# Altium integrated library NSC Interface.IntLib: 481 symbols (part 9 of 16)
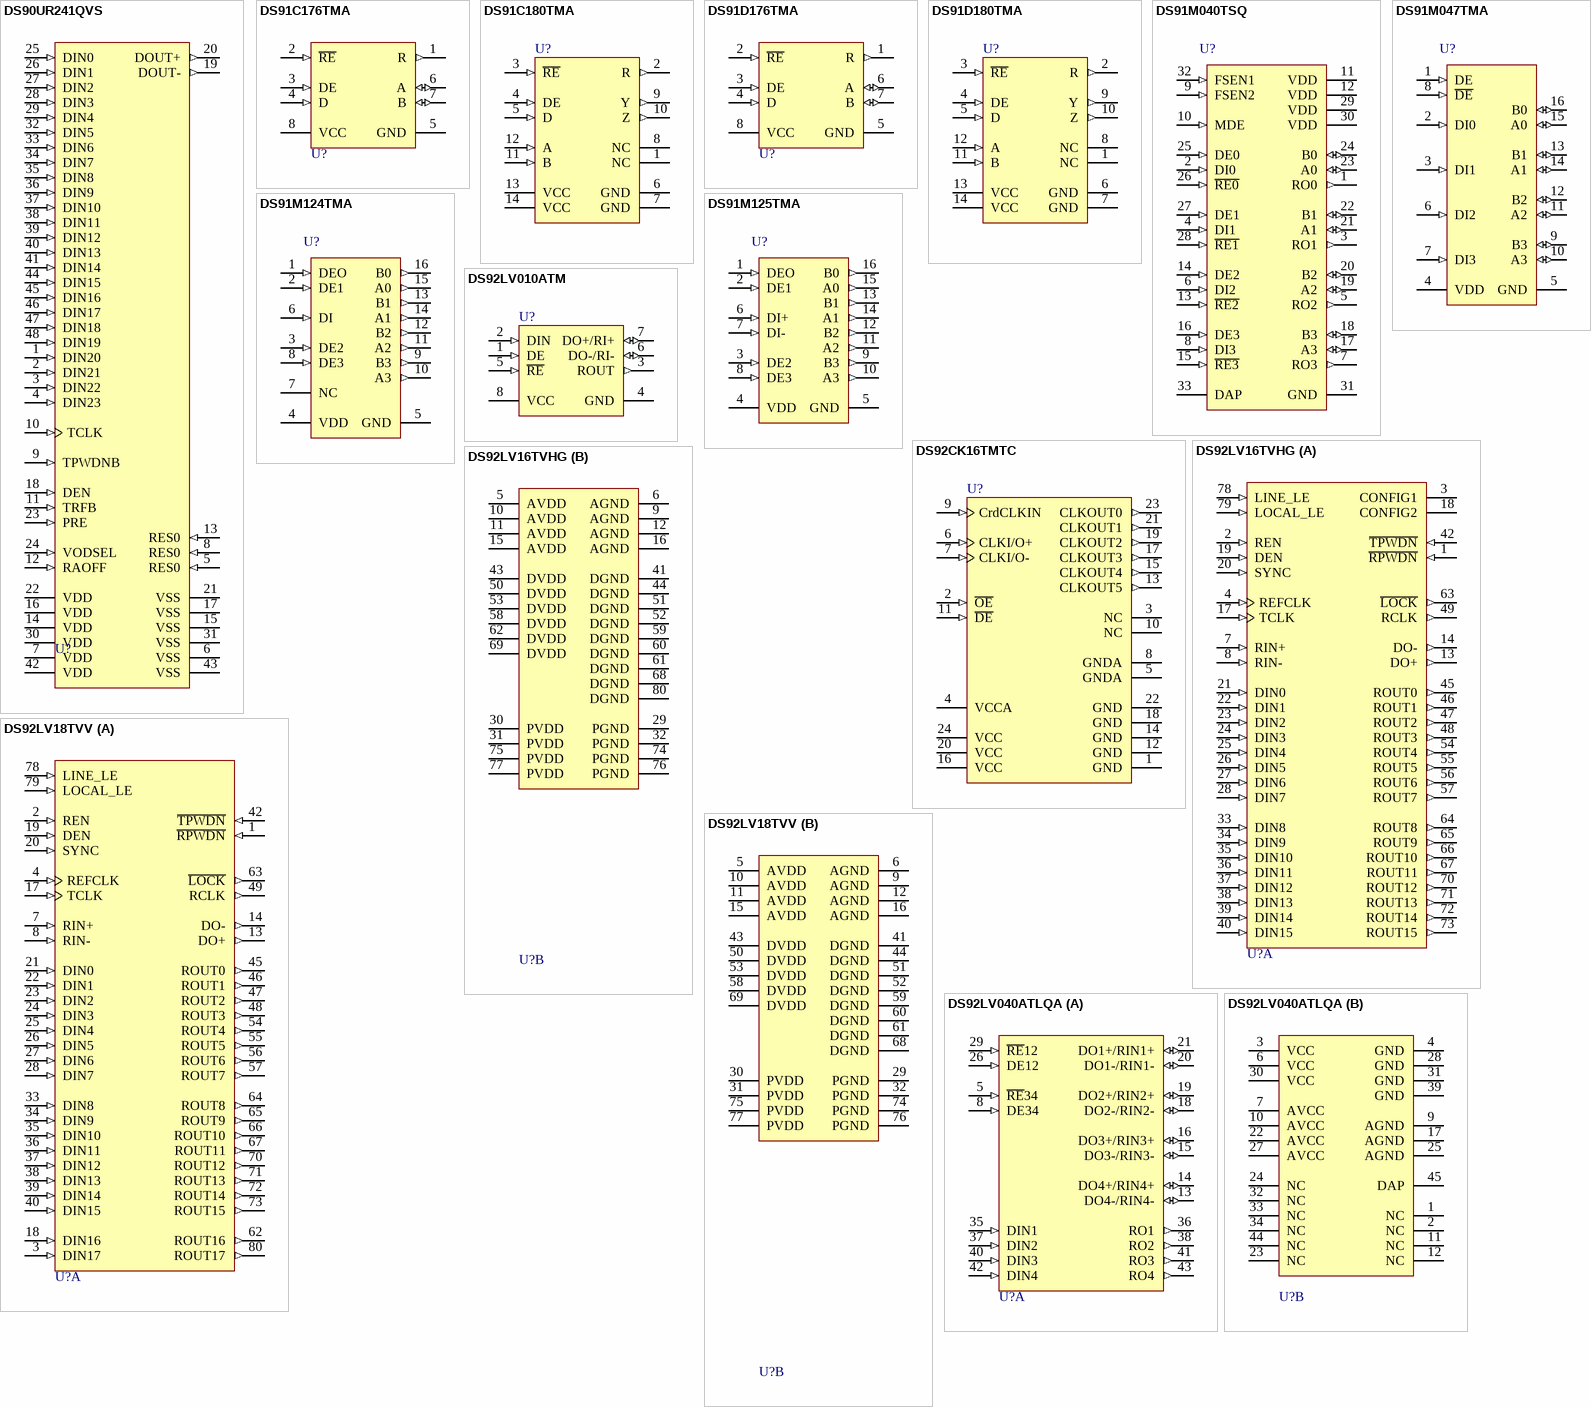
[diagram p48: symbols DS90UR241QVS to DS92LV040ATLQA]

## DS92LV040ATLQA
designator U?
4 Channel Bus LVDS Transceiver; PartNumber: DS92LV040ATLQA; Manufacturer: National Semiconductor; CompType: Interface IC; PackageTopMarking: NS*UZXYTT*LV040A; Published: 4-Dec-2008; DatasheetVersion: Aug-2002; PackageVersion: revB, Oct-2001; PackageReference: LQA44A; Publisher: Altium Limited; PackageDescription: LLP, Plastic, Quad, 7 x 7 x 0.75mm Body, 44 Lead, 0.5mm Pitch; RoHS: O; PinCount: 44; DigiKeyPartNumber: DS92LV040ATLQATR-ND; ComponentLink1Description: DS92LV040A Datasheet; ComponentLink1URL: http://www.national.com/ds/DS/DS92LV040A.pdf; ComponentLink2Description: DS92LV040A Web Page; ComponentLink2URL: http://www.national.com/pf/DS/DS92LV040A.html; ComponentLink3Description: LQA44A Package Page; ComponentLink3URL: http://www.national.com/packaging/folders/lqa44a.html
footprint LQA44A (PQFN, 44-Leads, Body 7x7mm, Pitch 0.5mm, NSC Recommended)
part A pins: 5 ~{RE}34 (in), 8 DE34 (in), 13 DO4-/RIN4- (io), 14 DO4+/RIN4+ (io), 15 DO3-/RIN3- (io), 16 DO3+/RIN3+ (io), 18 DO2-/RIN2- (io), 19 DO2+/RIN2+ (io), 20 DO1-/RIN1- (io), 21 DO1+/RIN1+ (io), 26 DE12 (in), 29 ~{RE}12 (in), 35 DIN1 (in), 36 RO1 (out), 37 DIN2 (in), 38 RO2 (out), 40 DIN3 (in), 41 RO3 (out), 42 DIN4 (in), 43 RO4 (out)
part B pins: 1 NC, 2 NC, 3 VCC (power), 4 GND (power), 6 VCC (power), 7 AVCC (power), 9 AGND (power), 10 AVCC (power), 11 NC, 12 NC, 17 AGND (power), 22 AVCC (power), 23 NC, 24 NC, 25 AGND (power), 27 AVCC (power), 28 GND (power), 30 VCC (power), 31 GND (power), 32 NC, 33 NC, 34 NC, 39 GND (power), 44 NC, 45 DAP (power)

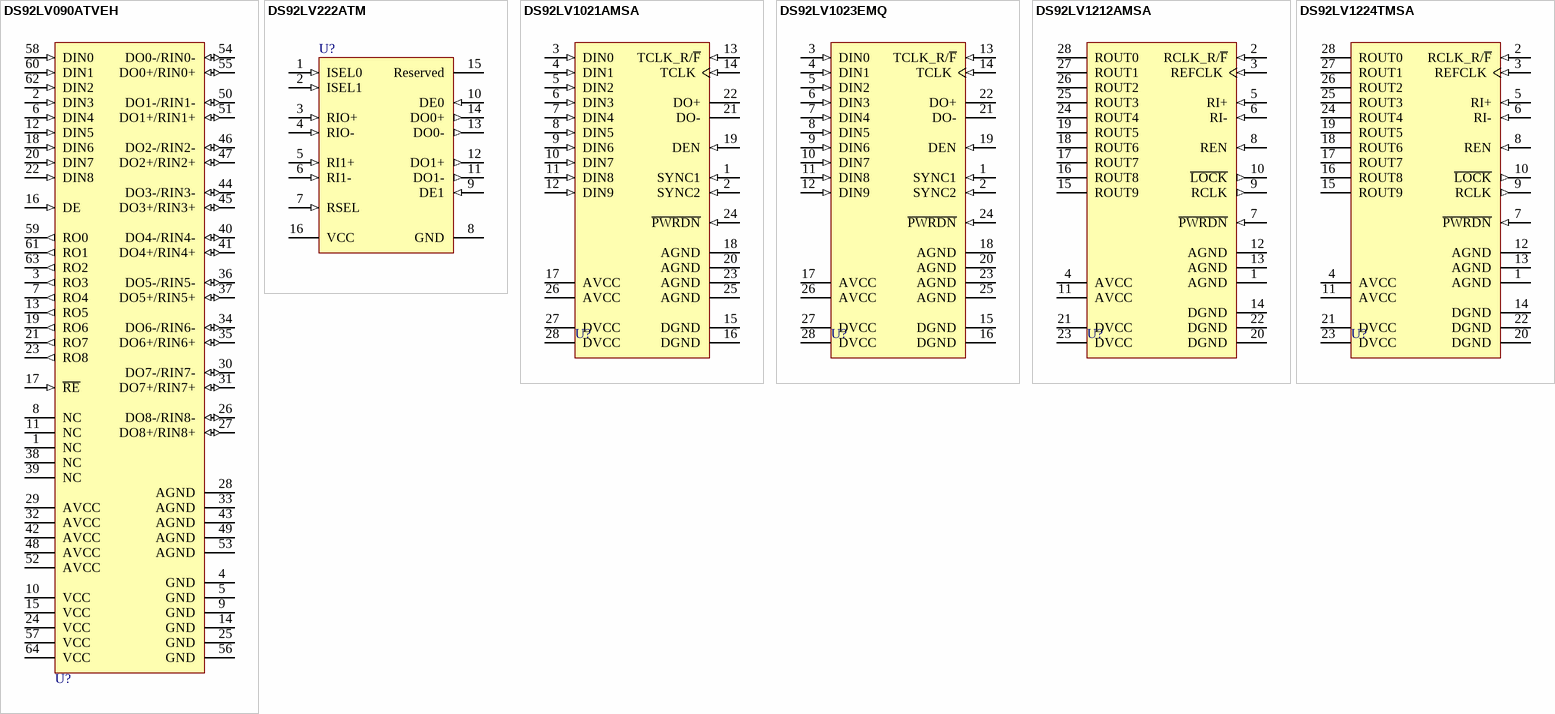
[diagram p23: symbols DS92LV090ATVEH to DS92LV1224TMSA]

## DS92LV090ATVEH
designator U?
9 Channel Bus LVDS Transceiver; PartNumber: DS92LV090ATVEH; Manufacturer: National Semiconductor; CompType: Interface IC; PackageTopMarking: NSUZXYYTT*DS92LV090A*TVEH; Published: 4-Dec-2008; DatasheetVersion: Dec-2007; PackageVersion: revC, Dec-1999; PackageReference: VEH64A; Publisher: Altium Limited; PackageDescription: LQFP, Jedec, Metric, 10 x 10 x 1.4mm, 64 Lead; RoHS: O; PinCount: 64; DigiKeyPartNumber: DS92LV090ATVEH-ND; Code_JEDEC: MS-026-BCD; ComponentLink1Description: DS92LV090A Datasheet; ComponentLink1URL: http://www.national.com/ds/DS/DS92LV090A.pdf; ComponentLink2Description: DS92LV090A Web Page; ComponentLink2URL: http://www.national.com/pf/DS/DS92LV090A.html; ComponentLink3Description: VEH64A Package Page; ComponentLink3URL: http://www.national.com/packaging/folders/veh64a.html
footprint VEH64A_N (Thin QFP, 64-Leads, Body 10x10mm, Pitch 0.5mm, IPC Medium Density)
footprint VEH64A_L (Thin QFP, 64-Leads, Body 10x10mm, Pitch 0.5mm, IPC High Density)
footprint VEH64A_M (Thin QFP, 64-Leads, Body 10x10mm, Pitch 0.5mm, IPC Low Density)
pins: 1 NC, 2 DIN3 (in), 3 RO3 (out), 4 GND (power), 5 GND (power), 6 DIN4 (in), 7 RO4 (out), 8 NC, 9 GND (power), 10 VCC (power), 11 NC, 12 DIN5 (in), 13 RO5 (out), 14 GND (power), 15 VCC (power), 16 DE (in), 17 ~{RE} (in), 18 DIN6 (in), 19 RO6 (out), 20 DIN7 (in), 21 RO7 (out), 22 DIN8 (in), 23 RO8 (out), 24 VCC (power), 25 GND (power), 26 DO8-/RIN8- (io), 27 DO8+/RIN8+ (io), 28 AGND (power), 29 AVCC (power), 30 DO7-/RIN7- (io), 31 DO7+/RIN7+ (io), 32 AVCC (power), 33 AGND (power), 34 DO6-/RIN6- (io), 35 DO6+/RIN6+ (io), 36 DO5-/RIN5- (io), 37 DO5+/RIN5+ (io), 38 NC, 39 NC, 40 DO4-/RIN4- (io), 41 DO4+/RIN4+ (io), 42 AVCC (power), 43 AGND (power), 44 DO3-/RIN3- (io), 45 DO3+/RIN3+ (io), 46 DO2-/RIN2- (io), 47 DO2+/RIN2+ (io), 48 AVCC (power), 49 AGND (power), 50 DO1-/RIN1- (io), 51 DO1+/RIN1+ (io), 52 AVCC (power), 53 AGND (power), 54 DO0-/RIN0- (io), 55 DO0+/RIN0+ (io), 56 GND (power), 57 VCC (power), 58 DIN0 (in), 59 RO0 (out), 60 DIN1 (in), 61 RO1 (out), 62 DIN2 (in), 63 RO2 (out), 64 VCC (power)

## DS92LV222ATM
designator U?
Two Channel Bus LVDS MUXed Repeater; PartNumber: DS92LV222ATM; Manufacturer: National Semiconductor; CompType: Interface IC; PackageTopMarking: NSUZXYTT*DS92LV222A*TM; Published: 4-Dec-2008; DatasheetVersion: May-1998; PackageVersion: revJ, Aug-1995; PackageReference: M16A; Publisher: Altium Limited; PackageDescription: Molded Package, S.O., .150in Wide, 16 Lead; RoHS: Y; PinCount: 16; DigiKeyPartNumber: DS92LV222ATM-ND; Code_JEDEC: MS-012-AC; Code_IPC: SOIC127P600-16; ComponentLink1Description: DS92LV222A Datasheet; ComponentLink1URL: http://www.national.com/ds/DS/DS92LV222A.pdf; ComponentLink2Description: DS92LV222A Web Page; ComponentLink2URL: http://www.national.com/pf/DS/DS92LV222A.html; ComponentLink3Description: M16A Package Page; ComponentLink3URL: http://www.national.com/packaging/folders/m16a.html
footprint M16A_N (SOIC, 16-Leads, Body 9.9x3.9mm, Pitch 1.27mm, IPC Medium Density)
footprint M16A_L (SOIC, 16-Leads, Body 9.9x3.9mm, Pitch 1.27mm, IPC High Density)
footprint M16A_M (SOIC, 16-Leads, Body 9.9x3.9mm, Pitch 1.27mm, IPC Low Density)
pins: 1 ISEL0 (in), 2 ISEL1 (in), 3 RIO+ (in), 4 RIO- (in), 5 RI1+ (in), 6 RI1- (in), 7 RSEL (in), 8 GND (power), 9 DE1 (in), 10 DE0 (in), 11 DO1- (out), 12 DO1+ (out), 13 DO0- (out), 14 DO0+ (out), 15 Reserved, 16 VCC (power)

## DS92LV1021AMSA
designator U?
16 MHz - 40 MHz 10-Bit Serializer; PartNumber: DS92LV1021AMSA; Manufacturer: National Semiconductor; CompType: Interface IC; PackageTopMarking: NSUZXYTT*DS92LV1021A*MSA BBBBB; Published: 4-Dec-2008; DatasheetVersion: Jan-2003; PackageVersion: revB, Jan-2000; PackageReference: MSA28; Publisher: Altium Limited; PackageDescription: Molded SSOP, 5.3mm Body Width, 0.65mm Pitch, EIAJ, Type II, 28 Lead; RoHS: O; PinCount: 28; DigiKeyPartNumber: DS92LV1021AMSA-ND; Code_IPC: SOP65P780-28; ComponentLink1Description: DS92LV1021A Datasheet; ComponentLink1URL: http://www.national.com/ds/DS/DS92LV1021A.pdf; ComponentLink2Description: DS92LV1021A Web Page; ComponentLink2URL: http://www.national.com/pf/DS/DS92LV1021A.html; ComponentLink3Description: MSA28 Package Page; ComponentLink3URL: http://www.national.com/packaging/folders/msa28.html
footprint MSA28_N (SOP, 28-Leads, Body 10.2x5.3mm, Pitch 0.65mm, IPC Medium Density)
footprint MSA28_L (SOP, 28-Leads, Body 10.2x5.3mm, Pitch 0.65mm, IPC High Density)
footprint MSA28_M (SOP, 28-Leads, Body 10.2x5.3mm, Pitch 0.65mm, IPC Low Density)
pins: 1 SYNC1 (in), 2 SYNC2 (in), 3 DIN0 (in), 4 DIN1 (in), 5 DIN2 (in), 6 DIN3 (in), 7 DIN4 (in), 8 DIN5 (in), 9 DIN6 (in), 10 DIN7 (in), 11 DIN8 (in), 12 DIN9 (in), 13 TCLK_R/~{F} (in), 14 TCLK (in), 15 DGND (power), 16 DGND (power), 17 AVCC (power), 18 AGND (power), 19 DEN (in), 20 AGND (power), 21 DO- (hiz), 22 DO+ (hiz), 23 AGND (power), 24 ~{PWRDN} (in), 25 AGND (power), 26 AVCC (power), 27 DVCC (power), 28 DVCC (power)

## DS92LV1023EMQ
designator U?
30-66 MHz 10-Bit Serializer; PartNumber: DS92LV1023EMQ; Manufacturer: National Semiconductor; CompType: Interface IC; PackageTopMarking: NSUZXYTT*DS92LV1023*EMQ; Published: 4-Dec-2008; DatasheetVersion: Apr-2005; PackageVersion: revB, Jan-2000; PackageReference: MSA28; Publisher: Altium Limited; PackageDescription: Molded SSOP, 5.3mm Body Width, 0.65mm Pitch, EIAJ, Type II, 28 Lead; RoHS: Y; PinCount: 28; DigiKeyPartNumber: DS92LV1023EMQ-ND; Code_IPC: SOP65P780-28; ComponentLink1Description: DS92LV1023E Datasheet; ComponentLink1URL: http://www.national.com/ds/DS/DS92LV1023E.pdf; ComponentLink2Description: DS92LV1023E Web Page; ComponentLink2URL: http://www.national.com/pf/DS/DS92LV1023E.html; ComponentLink3Description: MSA28 Package Page; ComponentLink3URL: http://www.national.com/packaging/folders/msa28.html
footprint MSA28_N (SOP, 28-Leads, Body 10.2x5.3mm, Pitch 0.65mm, IPC Medium Density)
footprint MSA28_L (SOP, 28-Leads, Body 10.2x5.3mm, Pitch 0.65mm, IPC High Density)
footprint MSA28_M (SOP, 28-Leads, Body 10.2x5.3mm, Pitch 0.65mm, IPC Low Density)
pins: 1 SYNC1 (in), 2 SYNC2 (in), 3 DIN0 (in), 4 DIN1 (in), 5 DIN2 (in), 6 DIN3 (in), 7 DIN4 (in), 8 DIN5 (in), 9 DIN6 (in), 10 DIN7 (in), 11 DIN8 (in), 12 DIN9 (in), 13 TCLK_R/~{F} (in), 14 TCLK (in), 15 DGND (power), 16 DGND (power), 17 AVCC (power), 18 AGND (power), 19 DEN (in), 20 AGND (power), 21 DO- (hiz), 22 DO+ (hiz), 23 AGND (power), 24 ~{PWRDN} (in), 25 AGND (power), 26 AVCC (power), 27 DVCC (power), 28 DVCC (power)

## DS92LV1212AMSA
designator U?
16 MHz - 40 MHz 10-Bit Bus LVDS Random Lock Deserializer with Embedded Clock Recovery; PartNumber: DS92LV1212AMSA; Manufacturer: National Semiconductor; CompType: Interface IC; PackageTopMarking: NSUZXYTT*DS92LV1212A*MSA; Published: 4-Dec-2008; DatasheetVersion: Nov-2000; PackageVersion: revB, Jan-2000; PackageReference: MSA28; Publisher: Altium Limited; PackageDescription: Molded SSOP, 5.3mm Body Width, 0.65mm Pitch, EIAJ, Type II, 28 Lead; RoHS: O; PinCount: 28; DigiKeyPartNumber: DS92LV1212AMSA-ND; Code_IPC: SOP65P780-28; ComponentLink1Description: DS92LV1212A Datasheet; ComponentLink1URL: http://www.national.com/ds/DS/DS92LV1212A.pdf; ComponentLink2Description: DS92LV1212A Web Page; ComponentLink2URL: http://www.national.com/pf/DS/DS92LV1212A.html; ComponentLink3Description: MSA28 Package Page; ComponentLink3URL: http://www.national.com/packaging/folders/msa28.html
footprint MSA28_N (SOP, 28-Leads, Body 10.2x5.3mm, Pitch 0.65mm, IPC Medium Density)
footprint MSA28_L (SOP, 28-Leads, Body 10.2x5.3mm, Pitch 0.65mm, IPC High Density)
footprint MSA28_M (SOP, 28-Leads, Body 10.2x5.3mm, Pitch 0.65mm, IPC Low Density)
pins: 1 AGND (power), 2 RCLK_R/~{F} (in), 3 REFCLK (in), 4 AVCC (power), 5 RI+ (in), 6 RI- (in), 7 ~{PWRDN} (in), 8 REN (in), 9 RCLK (out), 10 ~{LOCK} (out), 11 AVCC (power), 12 AGND (power), 13 AGND (power), 14 DGND (power), 15 ROUT9 (hiz), 16 ROUT8 (hiz), 17 ROUT7 (hiz), 18 ROUT6 (hiz), 19 ROUT5 (hiz), 20 DGND (power), 21 DVCC (power), 22 DGND (power), 23 DVCC (power), 24 ROUT4 (hiz), 25 ROUT3 (hiz), 26 ROUT2 (hiz), 27 ROUT1 (hiz), 28 ROUT0 (hiz)

## DS92LV1224TMSA
designator U?
30-66 MHz 10-Bit Deserializer; PartNumber: DS92LV1224TMSA; Manufacturer: National Semiconductor; CompType: Interface IC; PackageTopMarking: NSUZXYTT*DS92LV1224T*MSA; Published: 4-Dec-2008; DatasheetVersion: Apr-2005; PackageVersion: revB, Jan-2000; PackageReference: MSA28; Publisher: Altium Limited; PackageDescription: Molded SSOP, 5.3mm Body Width, 0.65mm Pitch, EIAJ, Type II, 28 Lead; RoHS: Y; PinCount: 28; DigiKeyPartNumber: DS92LV1224TMSA-ND; Code_IPC: SOP65P780-28; ComponentLink1Description: DS92LV1224 Datasheet; ComponentLink1URL: http://www.national.com/ds/DS/DS92LV1224.pdf; ComponentLink2Description: DS92LV1224 Web Page; ComponentLink2URL: http://www.national.com/pf/DS/DS92LV1224.html; ComponentLink3Description: MSA28 Package Page; ComponentLink3URL: http://www.national.com/packaging/folders/msa28.html
footprint MSA28_N (SOP, 28-Leads, Body 10.2x5.3mm, Pitch 0.65mm, IPC Medium Density)
footprint MSA28_L (SOP, 28-Leads, Body 10.2x5.3mm, Pitch 0.65mm, IPC High Density)
footprint MSA28_M (SOP, 28-Leads, Body 10.2x5.3mm, Pitch 0.65mm, IPC Low Density)
pins: 1 AGND (power), 2 RCLK_R/~{F} (in), 3 REFCLK (in), 4 AVCC (power), 5 RI+ (in), 6 RI- (in), 7 ~{PWRDN} (in), 8 REN (in), 9 RCLK (out), 10 ~{LOCK} (out), 11 AVCC (power), 12 AGND (power), 13 AGND (power), 14 DGND (power), 15 ROUT9 (hiz), 16 ROUT8 (hiz), 17 ROUT7 (hiz), 18 ROUT6 (hiz), 19 ROUT5 (hiz), 20 DGND (power), 21 DVCC (power), 22 DGND (power), 23 DVCC (power), 24 ROUT4 (hiz), 25 ROUT3 (hiz), 26 ROUT2 (hiz), 27 ROUT1 (hiz), 28 ROUT0 (hiz)

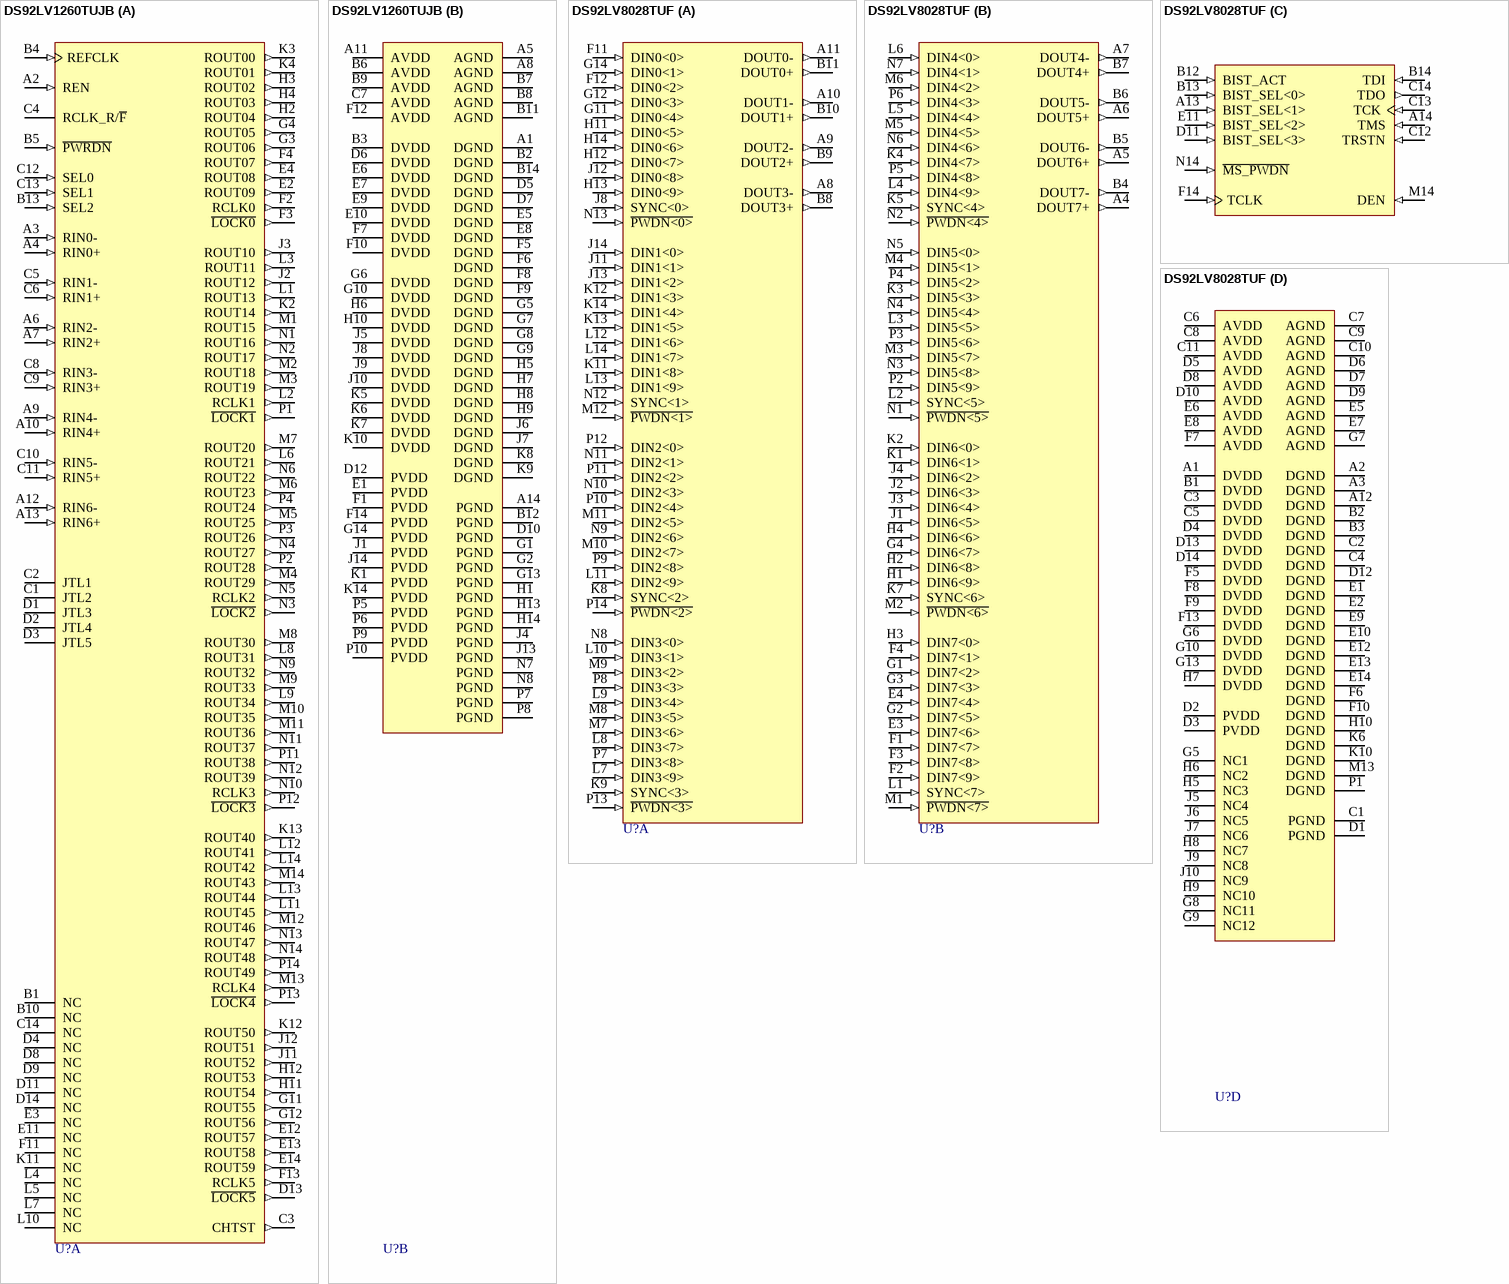
[diagram p24: symbols DS92LV1260TUJB to DS92LV8028TUF]

## DS92LV1260TUJB
designator U?
six 1 to 10 deserializers; PartNumber: DS92LV1260TUJB; Manufacturer: National Semiconductor; CompType: Interface IC; PackageTopMarking: NSUZXYYTT*DS92LV1260T*UJB*BBBBB; Published: 4-Dec-2008; DatasheetVersion: Aug-2003; PackageVersion: revC, Jul-2005; PackageReference: UJB196A; Publisher: Altium Limited; PackageDescription: LBGA, 15 x 15 x 1.37mm, 196 Ball, 1.0mm Pitch; RoHS: O; PinCount: 196; DigiKeyPartNumber: DS92LV1260TUJB-ND; Code_JEDEC: MO-192-AAE-1; ComponentLink1Description: DS92LV1260 Datasheet; ComponentLink1URL: http://www.national.com/ds/DS/DS92LV1260.pdf; ComponentLink2Description: DS92LV1260 Web Page; ComponentLink2URL: http://www.national.com/pf/DS/DS92LV1260.html; ComponentLink3Description: UJB196A Package Page; ComponentLink3URL: http://www.national.com/packaging/folders/ujb196a.html
footprint UJB196A (BGA, 196-Leads, Body 15x15mm, Pitch 1mm)
part A pins: A2 REN (in), A3 RIN0- (in), A4 RIN0+ (in), A6 RIN2- (in), A7 RIN2+ (in), A9 RIN4- (in), A10 RIN4+ (in), A12 RIN6- (in), A13 RIN6+ (in), B1 NC, B4 REFCLK (in), B5 ~{PWRDN} (in), B10 NC, B13 SEL2 (in), C1 JTL2, C2 JTL1, C3 CHTST (out), C4 RCLK_R/~{F} (power), C5 RIN1- (in), C6 RIN1+ (in), C8 RIN3- (in), C9 RIN3+ (in), C10 RIN5- (in), C11 RIN5+ (in), C12 SEL0 (in), C13 SEL1 (in), C14 NC, D1 JTL3, D2 JTL4, D3 JTL5, D4 NC, D8 NC, D9 NC, D11 NC, D13 ~{LOCK5} (out), D14 NC, E2 ROUT09 (out), E3 NC, E4 ROUT08 (out), E11 NC, E12 ROUT57 (out), E13 ROUT58 (out), E14 ROUT59 (out), F2 RCLK0 (out), F3 ~{LOCK0} (out), F4 ROUT07 (out), F11 NC, F13 RCLK5 (out), G3 ROUT06 (out), G4 ROUT05 (out), G11 ROUT55 (out), G12 ROUT56 (out), H2 ROUT04 (out), H3 ROUT02 (out), H4 ROUT03 (out), H11 ROUT54 (out), H12 ROUT53 (out), J2 ROUT12 (out), J3 ROUT10 (out), J11 ROUT52 (out), J12 ROUT51 (out), K2 ROUT14 (out), K3 ROUT00 (out), K4 ROUT01 (out), K11 NC, K12 ROUT50 (out), K13 ROUT40 (out), L1 ROUT13 (out), L2 RCLK1 (out), L3 ROUT11 (out), L4 NC, L5 NC, L6 ROUT21 (out), L7 NC, L8 ROUT31 (out), L9 ROUT34 (out), L10 NC, L11 ROUT45 (out), L12 ROUT41 (out), L13 ROUT44 (out), L14 ROUT42 (out), M1 ROUT15 (out), M2 ROUT18 (out), M3 ROUT19 (out), M4 ROUT29 (out), M5 ROUT25 (out), M6 ROUT23 (out), M7 ROUT20 (out), M8 ROUT30 (out), M9 ROUT33 (out), M10 ROUT35 (out), M11 ROUT36 (out), M12 ROUT46 (out), M13 RCLK4 (out), M14 ROUT43 (out), N1 ROUT16 (out), N2 ROUT17 (out), N3 ~{LOCK2} (out), N4 ROUT27 (out), N5 RCLK2 (out), N6 ROUT22 (out), N9 ROUT32 (out), N10 RCLK3 (out), N11 ROUT37 (out), N12 ROUT39 (out), N13 ROUT47 (out), N14 ROUT48 (out), P1 ~{LOCK1} (out), P2 ROUT28 (out), P3 ROUT26 (out), P4 ROUT24 (out), P11 ROUT38 (out), P12 ~{LOCK3} (out), P13 ~{LOCK4} (out), P14 ROUT49 (out)
part B pins: A1 DGND (power), A5 AGND (power), A8 AGND (power), A11 AVDD (power), A14 PGND (power), B2 DGND (power), B3 DVDD (power), B6 AVDD (power), B7 AGND (power), B8 AGND (power), B9 AVDD (power), B11 AGND (power), B12 PGND (power), B14 DGND (power), C7 AVDD (power), D5 DGND (power), D6 DVDD (power), D7 DGND (power), D10 PGND (power), D12 PVDD (power), E1 PVDD (power), E5 DGND (power), E6 DVDD (power), E7 DVDD (power), E8 DGND (power), E9 DVDD (power), E10 DVDD (power), F1 PVDD (power), F5 DGND (power), F6 DGND (power), F7 DVDD (power), F8 DGND (power), F9 DGND (power), F10 DVDD (power), F12 AVDD (power), F14 PVDD (power), G1 PGND (power), G2 PGND (power), G5 DGND (power), G6 DVDD (power), G7 DGND (power), G8 DGND (power), G9 DGND (power), G10 DVDD (power), G13 PGND (power), G14 PVDD (power), H1 PGND (power), H5 DGND (power), H6 DVDD (power), H7 DGND (power), H8 DGND (power), H9 DGND (power), H10 DVDD (power), H13 PGND (power), H14 PGND (power), J1 PVDD (power), J4 PGND (power), J5 DVDD (power), J6 DGND (power), J7 DGND (power), J8 DVDD (power), J9 DVDD (power), J10 DVDD (power), J13 PGND (power), J14 PVDD (power), K1 PVDD (power), K5 DVDD (power), K6 DVDD (power), K7 DVDD (power), K8 DGND (power), K9 DGND (power), K10 DVDD (power), K14 PVDD (power), N7 PGND (power), N8 PGND (power), P5 PVDD (power), P6 PVDD (power), P7 PGND (power), P8 PGND (power), P9 PVDD (power), P10 PVDD (power)

## DS92LV8028TUF
designator U?
8 Channel 10:1 Serializer; PartNumber: DS92LV8028TUF; Manufacturer: National Semiconductor; CompType: Interface IC; PackageTopMarking: NSUZXYYTT*DS92LV8028T*UF*BBBBB; Published: 4-Dec-2008; DatasheetVersion: Aug-2003; PackageVersion: revC, Jul-2005; PackageReference: UJB196A; Publisher: Altium Limited; PackageDescription: LBGA, 15 x 15 x 1.37mm, 196 Ball, 1.0mm Pitch; RoHS: O; PinCount: 196; DigiKeyPartNumber: DS92LV8028TUF-ND; Code_JEDEC: MO-192-AAE-1; ComponentLink1Description: DS92LV8028 Datasheet; ComponentLink1URL: http://www.national.com/ds/DS/DS92LV8028.pdf; ComponentLink2Description: DS92LV8028 Web Page; ComponentLink2URL: http://www.national.com/pf/DS/DS92LV8028.html; ComponentLink3Description: UJB196A Package Page; ComponentLink3URL: http://www.national.com/packaging/folders/ujb196a.html
footprint UJB196A (BGA, 196-Leads, Body 15x15mm, Pitch 1mm)
part A pins: A8 DOUT3- (out), A9 DOUT2- (out), A10 DOUT1- (out), A11 DOUT0- (out), B8 DOUT3+ (out), B9 DOUT2+ (out), B10 DOUT1+ (out), B11 DOUT0+ (out), F11 DIN0<0> (in), F12 DIN0<2> (in), G11 DIN0<4> (in), G12 DIN0<3> (in), G14 DIN0<1> (in), H11 DIN0<5> (in), H12 DIN0<7> (in), H13 DIN0<9> (in), H14 DIN0<6> (in), J8 SYNC<0> (in), J11 DIN1<1> (in), J12 DIN0<8> (in), J13 DIN1<2> (in), J14 DIN1<0> (in), K8 SYNC<2> (in), K9 SYNC<3> (in), K11 DIN1<8> (in), K12 DIN1<3> (in), K13 DIN1<5> (in), K14 DIN1<4> (in), L7 DIN3<9> (in), L8 DIN3<7> (in), L9 DIN3<4> (in), L10 DIN3<1> (in), L11 DIN2<9> (in), L12 DIN1<6> (in), L13 DIN1<9> (in), L14 DIN1<7> (in), M7 DIN3<6> (in), M8 DIN3<5> (in), M9 DIN3<2> (in), M10 DIN2<7> (in), M11 DIN2<5> (in), M12 ~{PWDN<1>} (in), N8 DIN3<0> (in), N9 DIN2<6> (in), N10 DIN2<3> (in), N11 DIN2<1> (in), N12 SYNC<1> (in), N13 ~{PWDN<0>} (in), P7 DIN3<8> (in), P8 DIN3<3> (in), P9 DIN2<8> (in), P10 DIN2<4> (in), P11 DIN2<2> (in), P12 DIN2<0> (in), P13 ~{PWDN<3>} (in), P14 ~{PWDN<2>} (in)
part B pins: A4 DOUT7+ (out), A5 DOUT6+ (out), A6 DOUT5+ (out), A7 DOUT4- (out), B4 DOUT7- (out), B5 DOUT6- (out), B6 DOUT5- (out), B7 DOUT4+ (out), E3 DIN7<6> (in), E4 DIN7<4> (in), F1 DIN7<7> (in), F2 DIN7<9> (in), F3 DIN7<8> (in), F4 DIN7<1> (in), G1 DIN7<2> (in), G2 DIN7<5> (in), G3 DIN7<3> (in), G4 DIN6<7> (in), H1 DIN6<9> (in), H2 DIN6<8> (in), H3 DIN7<0> (in), H4 DIN6<6> (in), J1 DIN6<5> (in), J2 DIN6<3> (in), J3 DIN6<4> (in), J4 DIN6<2> (in), K1 DIN6<1> (in), K2 DIN6<0> (in), K3 DIN5<3> (in), K4 DIN4<7> (in), K5 SYNC<4> (in), K7 SYNC<6> (in), L1 SYNC<7> (in), L2 SYNC<5> (in), L3 DIN5<5> (in), L4 DIN4<9> (in), L5 DIN4<4> (in), L6 DIN4<0> (in), M1 ~{PWDN<7>} (in), M2 ~{PWDN<6>} (in), M3 DIN5<7> (in), M4 DIN5<1> (in), M5 DIN4<5> (in), M6 DIN4<2> (in), N1 ~{PWDN<5>} (in), N2 ~{PWDN<4>} (in), N3 DIN5<8> (in), N4 DIN5<4> (in), N5 DIN5<0> (in), N6 DIN4<6> (in), N7 DIN4<1> (in), P2 DIN5<9> (in), P3 DIN5<6> (in), P4 DIN5<2> (in), P5 DIN4<8> (in), P6 DIN4<3> (in)
part C pins: A13 BIST_SEL<1> (in), A14 TMS (in), B12 BIST_ACT (in), B13 BIST_SEL<0> (in), B14 TDI (in), C12 TRSTN (in), C13 TCK (in), C14 TDO (out), D11 BIST_SEL<3> (in), E11 BIST_SEL<2> (in), F14 TCLK (in), M14 DEN (in), N14 ~{MS_PWDN} (in)
part D pins: A1 DVDD (power), A2 DGND (power), A3 DGND (power), A12 DGND (power), B1 DVDD (power), B2 DGND (power), B3 DGND (power), C1 PGND (power), C2 DGND (power), C3 DVDD (power), C4 DGND (power), C5 DVDD (power), C6 AVDD (power), C7 AGND (power), C8 AVDD (power), C9 AGND (power), C10 AGND (power), C11 AVDD (power), D1 PGND (power), D2 PVDD (power), D3 PVDD (power), D4 DVDD (power), D5 AVDD (power), D6 AGND (power), D7 AGND (power), D8 AVDD (power), D9 AGND (power), D10 AVDD (power), D12 DGND (power), D13 DVDD (power), D14 DVDD (power), E1 DGND (power), E2 DGND (power), E5 AGND (power), E6 AVDD (power), E7 AGND (power), E8 AVDD (power), E9 DGND (power), E10 DGND (power), E12 DGND (power), E13 DGND (power), E14 DGND (power), F5 DVDD (power), F6 DGND (power), F7 AVDD (power), F8 DVDD (power), F9 DVDD (power), F10 DGND (power), F13 DVDD (power), G5 NC1, G6 DVDD (power), G7 AGND (power), G8 NC11, G9 NC12, G10 DVDD (power), G13 DVDD (power), H5 NC3, H6 NC2, H7 DVDD (power), H8 NC7, H9 NC10, H10 DGND (power), J5 NC4, J6 NC5, J7 NC6, J9 NC8, J10 NC9, K6 DGND (power), K10 DGND (power), M13 DGND (power), P1 DGND (power)

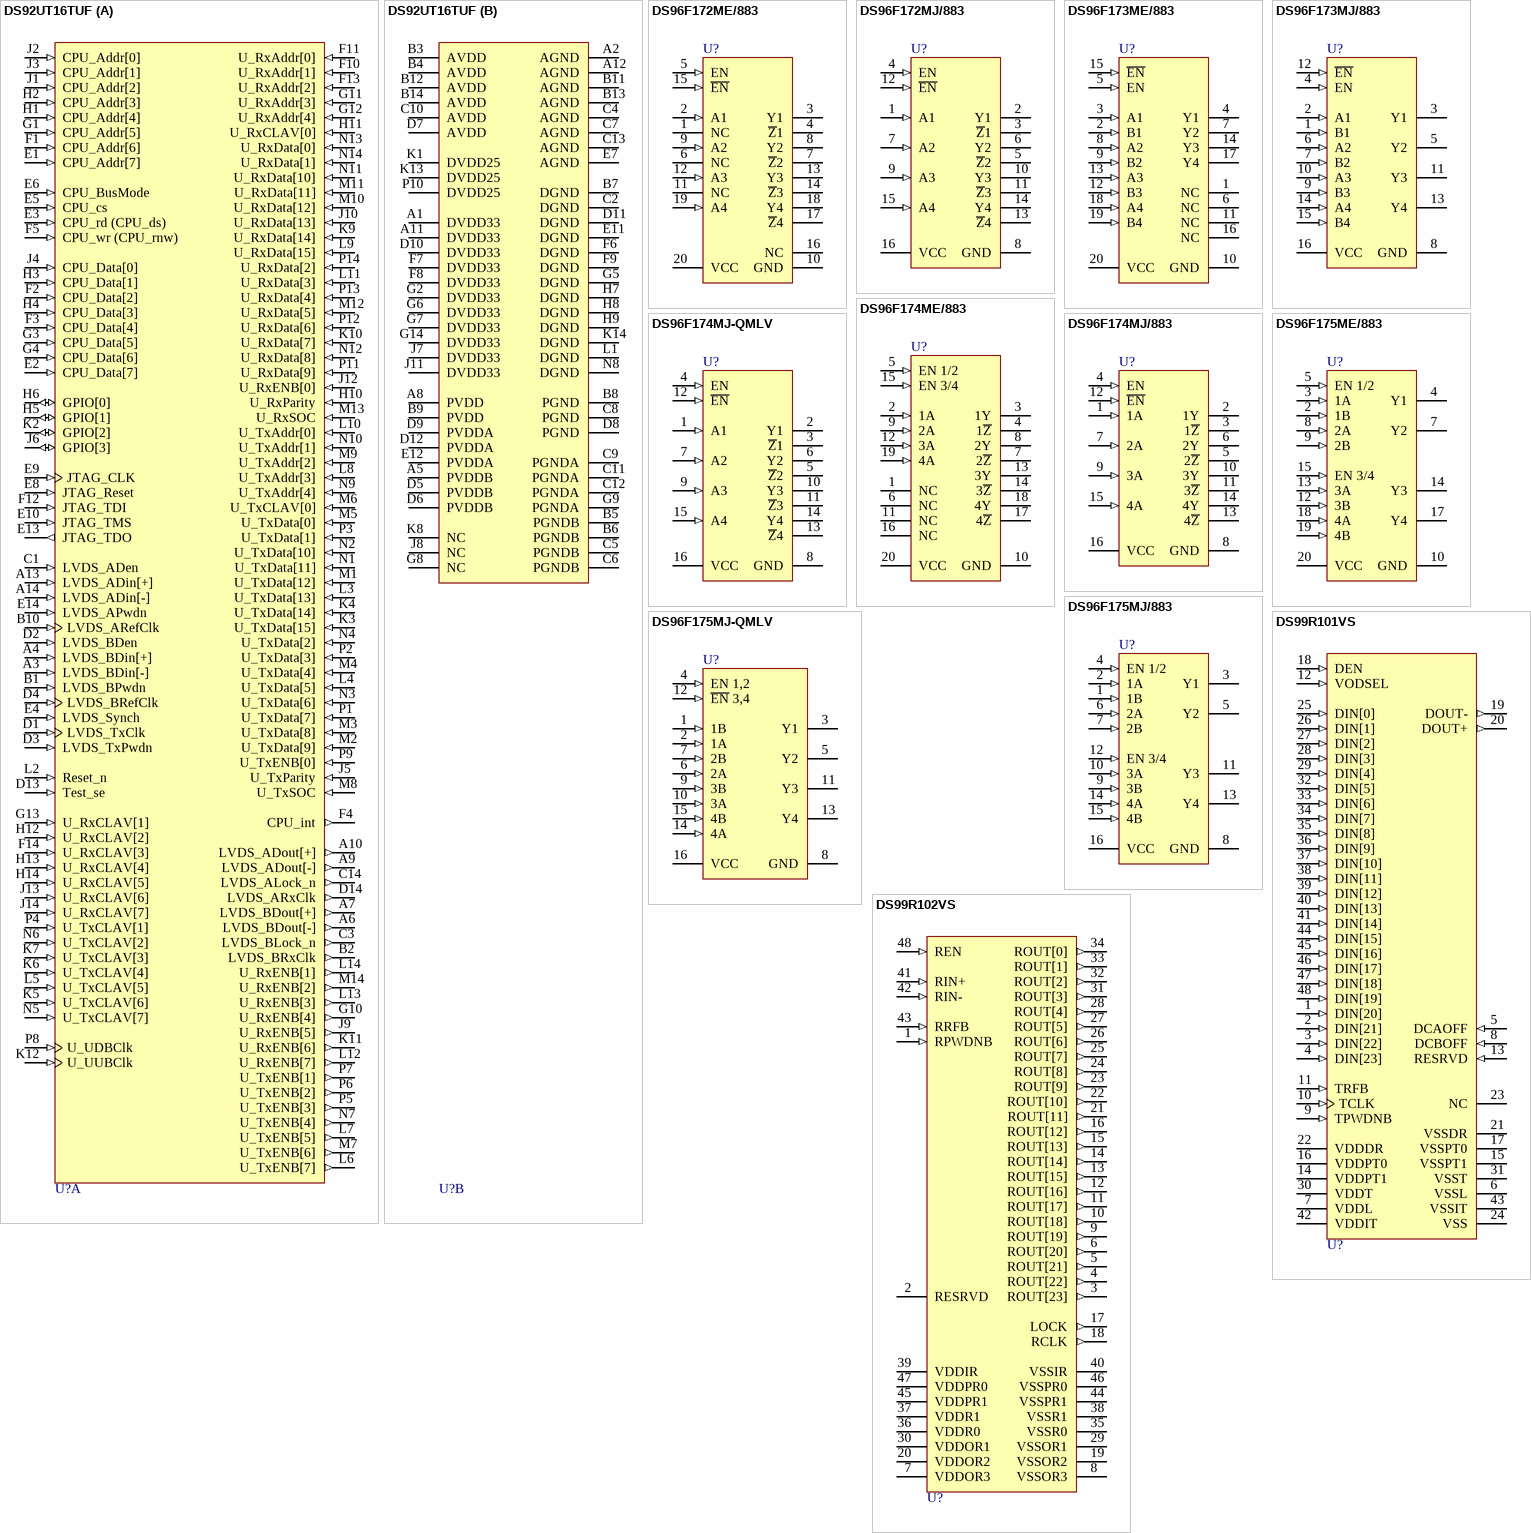
[diagram p25: symbols DS92UT16TUF to DS99R102VS]

## DS92UT16TUF
designator U?
Utopia-LVDS Bridge for 1.6 Gbps Bi-directional Data Transfers; PartNumber: DS92UT16TUF; Manufacturer: National Semiconductor; CompType: Interface IC; PackageTopMarking: NSUZXYYTT*DS92UT16TUF*BBBBB; Published: 4-Dec-2008; DatasheetVersion: Feb-2004; PackageVersion: revC, Jul-2005; PackageReference: UJB196A; Publisher: Altium Limited; PackageDescription: LBGA, 15 x 15 x 1.37mm, 196 Ball, 1.0mm Pitch; RoHS: O; PinCount: 196; DigiKeyPartNumber: DS92UT16TUF-ND; Code_JEDEC: MO-192-AAE-1; ComponentLink1Description: DS92UT16 Datasheet; ComponentLink1URL: http://www.national.com/ds/DS/DS92UT16.pdf; ComponentLink2Description: DS92UT16 Web Page; ComponentLink2URL: http://www.national.com/pf/DS/DS92UT16.html; ComponentLink3Description: UJB196A Package Page; ComponentLink3URL: http://www.national.com/packaging/folders/ujb196a.html
footprint UJB196A (BGA, 196-Leads, Body 15x15mm, Pitch 1mm)
part A pins: A3 LVDS_BDin[-] (in), A4 LVDS_BDin[+] (in), A6 LVDS_BDout[-] (out), A7 LVDS_BDout[+] (out), A9 LVDS_ADout[-] (out), A10 LVDS_ADout[+] (out), A13 LVDS_ADin[+] (in), A14 LVDS_ADin[-] (in), B1 LVDS_BPwdn (in), B2 LVDS_BRxClk (out), B10 LVDS_ARefClk (in), C1 LVDS_ADen (in), C3 LVDS_BLock_n (out), C14 LVDS_ALock_n (out), D1 LVDS_TxClk (in), D2 LVDS_BDen (in), D3 LVDS_TxPwdn (in), D4 LVDS_BRefClk (in), D13 Test_se (in), D14 LVDS_ARxClk (out), E1 CPU_Addr[7] (in), E2 CPU_Data[7] (in), E3 CPU_rd (CPU_ds) (in), E4 LVDS_Synch (in), E5 CPU_cs (in), E6 CPU_BusMode (in), E8 JTAG_Reset (in), E9 JTAG_CLK (in), E10 JTAG_TMS (in), E13 JTAG_TDO (out), E14 LVDS_APwdn (in), F1 CPU_Addr[6] (in), F2 CPU_Data[2] (in), F3 CPU_Data[4] (in), F4 CPU_int (out), F5 CPU_wr (CPU_rnw) (in), F10 U_RxAddr[1] (in), F11 U_RxAddr[0] (in), F12 JTAG_TDI (in), F13 U_RxAddr[2] (in), F14 U_RxCLAV[3] (in), G1 CPU_Addr[5] (in), G3 CPU_Data[5] (in), G4 CPU_Data[6] (in), G10 U_RxENB[4] (out), G11 U_RxAddr[3] (in), G12 U_RxAddr[4] (in), G13 U_RxCLAV[1] (in), H1 CPU_Addr[4] (in), H2 CPU_Addr[3] (in), H3 CPU_Data[1] (in), H4 CPU_Data[3] (in), H5 GPIO[1] (io), H6 GPIO[0] (io), H10 U_RxParity (in), H11 U_RxCLAV[0] (in), H12 U_RxCLAV[2] (in), H13 U_RxCLAV[4] (in), H14 U_RxCLAV[5] (in), J1 CPU_Addr[2] (in), J2 CPU_Addr[0] (in), J3 CPU_Addr[1] (in), J4 CPU_Data[0] (in), J5 U_TxParity (in), J6 GPIO[3] (io), J9 U_RxENB[5] (out), J10 U_RxData[13] (in), J12 U_RxENB[0] (in), J13 U_RxCLAV[6] (in), J14 U_RxCLAV[7] (in), K2 GPIO[2] (io), K3 U_TxData[15] (in), K4 U_TxData[14] (in), K5 U_TxCLAV[6] (in), K6 U_TxCLAV[4] (in), K7 U_TxCLAV[3] (in), K9 U_RxData[14] (in), K10 U_RxData[7] (in), K11 U_RxENB[6] (out), K12 U_UUBClk (in), L2 Reset_n (in), L3 U_TxData[13] (in), L4 U_TxData[5] (in), L5 U_TxCLAV[5] (in), L6 U_TxENB[7] (out), L7 U_TxENB[5] (out), L8 U_TxAddr[3] (in), L9 U_RxData[15] (in), L10 U_TxAddr[0] (in), L11 U_RxData[3] (in), L12 U_RxENB[7] (out), L13 U_RxENB[3] (out), L14 U_RxENB[1] (out), M1 U_TxData[12] (in), M2 U_TxData[9] (in), M3 U_TxData[8] (in), M4 U_TxData[4] (in), M5 U_TxData[0] (in), M6 U_TxCLAV[0] (in), M7 U_TxENB[6] (out), M8 U_TxSOC (in), M9 U_TxAddr[2] (in), M10 U_RxData[12] (in), M11 U_RxData[11] (in), M12 U_RxData[5] (in), M13 U_RxSOC (in), M14 U_RxENB[2] (out), N1 U_TxData[11] (in), N2 U_TxData[10] (in), N3 U_TxData[6] (in), N4 U_TxData[2] (in), N5 U_TxCLAV[7] (in), N6 U_TxCLAV[2] (in), N7 U_TxENB[4] (out), N9 U_TxAddr[4] (in), N10 U_TxAddr[1] (in), N11 U_RxData[10] (in), N12 U_RxData[8] (in), N13 U_RxData[0] (in), N14 U_RxData[1] (in), P1 U_TxData[7] (in), P2 U_TxData[3] (in), P3 U_TxData[1] (in), P4 U_TxCLAV[1] (in), P5 U_TxENB[3] (out), P6 U_TxENB[2] (out), P7 U_TxENB[1] (out), P8 U_UDBClk (in), P9 U_TxENB[0] (in), P11 U_RxData[9] (in), P12 U_RxData[6] (in), P13 U_RxData[4] (in), P14 U_RxData[2] (in)
part B pins: A1 DVDD33 (power), A2 AGND (power), A5 PVDDB (power), A8 PVDD (power), A11 DVDD33 (power), A12 AGND (power), B3 AVDD (power), B4 AVDD (power), B5 PGNDB (power), B6 PGNDB (power), B7 DGND (power), B8 PGND (power), B9 PVDD (power), B11 AGND (power), B12 AVDD (power), B13 AGND (power), B14 AVDD (power), C2 DGND (power), C4 AGND (power), C5 PGNDB (power), C6 PGNDB (power), C7 AGND (power), C8 PGND (power), C9 PGNDA (power), C10 AVDD (power), C11 PGNDA (power), C12 PGNDA (power), C13 AGND (power), D5 PVDDB (power), D6 PVDDB (power), D7 AVDD (power), D8 PGND (power), D9 PVDDA (power), D10 DVDD33 (power), D11 DGND (power), D12 PVDDA (power), E7 AGND (power), E11 DGND (power), E12 PVDDA (power), F6 DGND (power), F7 DVDD33 (power), F8 DVDD33 (power), F9 DGND (power), G2 DVDD33 (power), G5 DGND (power), G6 DVDD33 (power), G7 DVDD33 (power), G8 NC, G9 PGNDA (power), G14 DVDD33 (power), H7 DGND (power), H8 DGND (power), H9 DGND (power), J7 DVDD33 (power), J8 NC, J11 DVDD33 (power), K1 DVDD25 (power), K8 NC, K13 DVDD25 (power), K14 DGND (power), L1 DGND (power), N8 DGND (power), P10 DVDD25 (power)

## DS96F172ME/883
designator U?
EIA-485/EIA-422 Quad Differential Driver; PartNumber: DS96F172ME/883; Manufacturer: National Semiconductor; CompType: Interface IC; PackageTopMarking: NS*ZSSXXYYA*DS96F172ME*/883 Q 5962-*9076501M2A; Published: 4-Dec-2008; DatasheetVersion: Jul-2000; PackageVersion: revF, May-2004; PackageReference: E20A; Publisher: Altium Limited; PackageDescription: Leadless Chip Carrier, Type C, 20 Terminal; RoHS: N; PinCount: 20; Code_JEDEC: MS-004-CB; ComponentLink1Description: DS96F172M Datasheet; ComponentLink1URL: http://www.national.com/ds/DS/DS96F172M.pdf; ComponentLink2Description: DS96F172M Web Page; ComponentLink2URL: http://www.national.com/pf/DS/DS96F172M.html; ComponentLink3Description: E20A Package Page; ComponentLink3URL: http://www.national.com/packaging/folders/e20a.html
footprint E20A_N (Leadless Chip Carrier, 20-Leads, Body 8.9x8.9mm, Pitch 1.27mm, IPC Medium Density)
footprint E20A_L (Leadless Chip Carrier, 20-Leads, Body 8.9x8.9mm, Pitch 1.27mm, IPC High Density)
footprint E20A_M (Leadless Chip Carrier, 20-Leads, Body 8.9x8.9mm, Pitch 1.27mm, IPC Low Density)
pins: 1 NC, 2 A1 (in), 3 Y1 (hiz), 4 ~{Z}1 (hiz), 5 EN (in), 6 NC, 7 ~{Z}2 (hiz), 8 Y2 (hiz), 9 A2 (in), 10 GND (power), 11 NC, 12 A3 (in), 13 Y3 (hiz), 14 ~{Z}3 (hiz), 15 ~{EN} (in), 16 NC, 17 ~{Z}4 (hiz), 18 Y4 (hiz), 19 A4 (in), 20 VCC (power)

## DS96F172MJ/883
designator U?
EIA-485/EIA-422 Quad Differential Driver; PartNumber: DS96F172MJ/883; Manufacturer: National Semiconductor; CompType: Interface IC; PackageTopMarking: NSZSSXXYYA*DS96F172MJ/883 Q*5962-9076501MEA; Published: 4-Dec-2008; DatasheetVersion: Jul-2000; PackageVersion: revL, Sep-1993; PackageReference: J16A; Publisher: Altium Limited; PackageDescription: Cerdip (J), 16 Lead; RoHS: N; PinCount: 16; ComponentLink1Description: DS96F172M Datasheet; ComponentLink1URL: http://www.national.com/ds/DS/DS96F172M.pdf; ComponentLink2Description: DS96F172M Web Page; ComponentLink2URL: http://www.national.com/pf/DS/DS96F172M.html; ComponentLink3Description: J16A Package Page; ComponentLink3URL: http://www.national.com/packaging/folders/j16a.html
footprint J16A (DIP, 16-Leads, Row Spacing 7.62mm, Pitch 2.54mm, Body 19.56x6.73mm)
pins: 1 A1 (in), 2 Y1 (hiz), 3 ~{Z}1 (hiz), 4 EN (in), 5 ~{Z}2 (hiz), 6 Y2 (hiz), 7 A2 (in), 8 GND (power), 9 A3 (in), 10 Y3 (hiz), 11 ~{Z}3 (hiz), 12 ~{EN} (in), 13 ~{Z}4 (hiz), 14 Y4 (hiz), 15 A4 (in), 16 VCC (power)

## DS96F173ME/883
designator U?
EIA-485/EIA-422 Quad Differential Receiver; PartNumber: DS96F173ME/883; Manufacturer: National Semiconductor; CompType: Interface IC; PackageTopMarking: NS*ZSSXXYYA*DS96F173ME*/883 Q 5962-*9076602M2A; Published: 4-Dec-2008; DatasheetVersion: Jul-2000; PackageVersion: revF, May-2004; PackageReference: E20A; Publisher: Altium Limited; PackageDescription: Leadless Chip Carrier, Type C, 20 Terminal; RoHS: N; PinCount: 20; Code_JEDEC: MS-004-CB; ComponentLink1Description: DS96F173M Datasheet; ComponentLink1URL: http://www.national.com/ds/DS/DS96F173M.pdf; ComponentLink2Description: DS96F173M Web Page; ComponentLink2URL: http://www.national.com/pf/DS/DS96F173M.html; ComponentLink3Description: E20A Package Page; ComponentLink3URL: http://www.national.com/packaging/folders/e20a.html
footprint E20A_N (Leadless Chip Carrier, 20-Leads, Body 8.9x8.9mm, Pitch 1.27mm, IPC Medium Density)
footprint E20A_L (Leadless Chip Carrier, 20-Leads, Body 8.9x8.9mm, Pitch 1.27mm, IPC High Density)
footprint E20A_M (Leadless Chip Carrier, 20-Leads, Body 8.9x8.9mm, Pitch 1.27mm, IPC Low Density)
pins: 1 NC, 2 B1 (in), 3 A1 (in), 4 Y1 (hiz), 5 EN (in), 6 NC, 7 Y2 (hiz), 8 A2 (in), 9 B2 (in), 10 GND (power), 11 NC, 12 B3 (in), 13 A3 (in), 14 Y3 (hiz), 15 ~{EN} (in), 16 NC, 17 Y4 (hiz), 18 A4 (in), 19 B4 (in), 20 VCC (power)

## DS96F173MJ/883
designator U?
EIA-485/EIA-422 Quad Differential Receiver; PartNumber: DS96F173MJ/883; Manufacturer: National Semiconductor; CompType: Interface IC; PackageTopMarking: NSZSSXXYYA*DS96F173MJ/883 Q*5962-9076602MEA; Published: 4-Dec-2008; DatasheetVersion: Jul-2000; PackageVersion: revL, Sep-1993; PackageReference: J16A; Publisher: Altium Limited; PackageDescription: Cerdip (J), 16 Lead; RoHS: N; PinCount: 16; ComponentLink1Description: DS96F173M Datasheet; ComponentLink1URL: http://www.national.com/ds/DS/DS96F173M.pdf; ComponentLink2Description: DS96F173M Web Page; ComponentLink2URL: http://www.national.com/pf/DS/DS96F173M.html; ComponentLink3Description: J16A Package Page; ComponentLink3URL: http://www.national.com/packaging/folders/j16a.html
footprint J16A (DIP, 16-Leads, Row Spacing 7.62mm, Pitch 2.54mm, Body 19.56x6.73mm)
pins: 1 B1 (in), 2 A1 (in), 3 Y1 (hiz), 4 EN (in), 5 Y2 (hiz), 6 A2 (in), 7 B2 (in), 8 GND (power), 9 B3 (in), 10 A3 (in), 11 Y3 (hiz), 12 ~{EN} (in), 13 Y4 (hiz), 14 A4 (in), 15 B4 (in), 16 VCC (power)

## DS96F174ME/883
designator U?
EIA-485/EIA-422 Quad Differential Driver; PartNumber: DS96F174ME/883; Manufacturer: National Semiconductor; CompType: Interface IC; PackageTopMarking: NSZSSXXYYA*DS96F174ME*/883 Q*5962-*9076502M2A; Published: 4-Dec-2008; DatasheetVersion: Jul-2000; PackageVersion: revF, May-2004; PackageReference: E20A; Publisher: Altium Limited; PackageDescription: Leadless Chip Carrier, Type C, 20 Terminal; RoHS: N; PinCount: 20; Code_JEDEC: MS-004-CB; ComponentLink1Description: DS96F174M Datasheet; ComponentLink1URL: http://www.national.com/ds/DS/DS96F174M.pdf; ComponentLink2Description: DS96F174M Web Page; ComponentLink2URL: http://www.national.com/pf/DS/DS96F174M.html; ComponentLink3Description: E20A Package Page; ComponentLink3URL: http://www.national.com/packaging/folders/e20a.html
footprint E20A_N (Leadless Chip Carrier, 20-Leads, Body 8.9x8.9mm, Pitch 1.27mm, IPC Medium Density)
footprint E20A_L (Leadless Chip Carrier, 20-Leads, Body 8.9x8.9mm, Pitch 1.27mm, IPC High Density)
footprint E20A_M (Leadless Chip Carrier, 20-Leads, Body 8.9x8.9mm, Pitch 1.27mm, IPC Low Density)
pins: 1 NC, 2 1A (in), 3 1Y (hiz), 4 1~{Z} (hiz), 5 EN 1/2 (in), 6 NC, 7 2~{Z} (hiz), 8 2Y (hiz), 9 2A (in), 10 GND (power), 11 NC, 12 3A (in), 13 3Y (hiz), 14 3~{Z} (hiz), 15 EN 3/4 (in), 16 NC, 17 4~{Z} (hiz), 18 4Y (hiz), 19 4A (in), 20 VCC (power)

## DS96F174MJ-QMLV
designator U?
EIA-485/EIA-422 Quad Differential Drivers; PartNumber: DS96F174MJ/883; Manufacturer: National Semiconductor; CompType: Interface IC; PackageTopMarking: NSZSSXXYYA*DS96F174MJ/883 Q*5962-9076502MEA; Published: 4-Dec-2008; DatasheetVersion: Jul-2000; PackageVersion: revL, Sep-1993; PackageReference: J16A; Publisher: Altium Limited; PackageDescription: Cerdip (J), 16 Lead; RoHS: N; PinCount: 16; ComponentLink1Description: DS96F174M Datasheet; ComponentLink1URL: http://www.national.com/ds/DS/DS96F174M.pdf; ComponentLink2Description: DS96F174M Web Page; ComponentLink2URL: http://www.national.com/pf/DS/DS96F174M.html; ComponentLink3Description: J16A Package Page; ComponentLink3URL: http://www.national.com/packaging/folders/j16a.html
footprint J16A (DIP, 16-Leads, Row Spacing 7.62mm, Pitch 2.54mm, Body 19.56x6.73mm)
pins: 1 A1 (in), 2 Y1 (hiz), 3 ~{Z}1 (hiz), 4 EN (in), 5 ~{Z}2 (hiz), 6 Y2 (hiz), 7 A2 (in), 8 GND (power), 9 A3 (in), 10 Y3 (hiz), 11 ~{Z}3 (hiz), 12 ~{EN} (in), 13 ~{Z}4 (hiz), 14 Y4 (hiz), 15 A4 (in), 16 VCC (power)

## DS96F174MJ/883
designator U?
EIA-485/EIA-422 Quad Differential Driver; PartNumber: DS96F174MJ-QMLV; Manufacturer: National Semiconductor; CompType: Interface IC; PackageTopMarking: NSZSSXXYYA*5962-9076502VEA*DS96F174MJ-QV Q; Published: 4-Dec-2008; DatasheetVersion: Jul-2000; PackageVersion: revL, Sep-1993; PackageReference: J16A; Publisher: Altium Limited; PackageDescription: Cerdip (J), 16 Lead; RoHS: N; PinCount: 16; ComponentLink1Description: DS96F174M Datasheet; ComponentLink1URL: http://www.national.com/ds/DS/DS96F174M.pdf; ComponentLink2Description: DS96F174M Web Page; ComponentLink2URL: http://www.national.com/pf/DS/DS96F174M.html; ComponentLink3Description: J16A Package Page; ComponentLink3URL: http://www.national.com/packaging/folders/j16a.html
footprint J16A (DIP, 16-Leads, Row Spacing 7.62mm, Pitch 2.54mm, Body 19.56x6.73mm)
pins: 1 1A (in), 2 1Y (hiz), 3 1~{Z} (hiz), 4 EN (in), 5 2~{Z} (hiz), 6 2Y (hiz), 7 2A (in), 8 GND (power), 9 3A (in), 10 3Y (hiz), 11 3~{Z} (hiz), 12 ~{EN} (in), 13 4~{Z} (hiz), 14 4Y (hiz), 15 4A (in), 16 VCC (power)

## DS96F175ME/883
designator U?
EIA-485/EIA-422 Quad Differential Receiver; PartNumber: DS96F175ME/883; Manufacturer: National Semiconductor; CompType: Interface IC; PackageTopMarking: NS*ZSSXXYYA*DS96F175ME*/883 Q 5962-*9076601M2A; Published: 4-Dec-2008; DatasheetVersion: Jul-2000; PackageVersion: revF, May-2004; PackageReference: E20A; Publisher: Altium Limited; PackageDescription: Leadless Chip Carrier, Type C, 20 Terminal; RoHS: N; PinCount: 20; Code_JEDEC: MS-004-CB; ComponentLink1Description: DS96F175M Datasheet; ComponentLink1URL: http://www.national.com/ds/DS/DS96F175M.pdf; ComponentLink2Description: DS96F175M Web Page; ComponentLink2URL: http://www.national.com/pf/DS/DS96F175M.html; ComponentLink3Description: E20A Package Page; ComponentLink3URL: http://www.national.com/packaging/folders/e20a.html
footprint E20A_N (Leadless Chip Carrier, 20-Leads, Body 8.9x8.9mm, Pitch 1.27mm, IPC Medium Density)
footprint E20A_L (Leadless Chip Carrier, 20-Leads, Body 8.9x8.9mm, Pitch 1.27mm, IPC High Density)
footprint E20A_M (Leadless Chip Carrier, 20-Leads, Body 8.9x8.9mm, Pitch 1.27mm, IPC Low Density)
pins: 2 1B (in), 3 1A (in), 4 Y1 (hiz), 5 EN 1/2 (in), 7 Y2 (hiz), 8 2A (in), 9 2B (in), 10 GND (power), 12 3B (in), 13 3A (in), 14 Y3 (hiz), 15 EN 3/4 (in), 17 Y4 (hiz), 18 4A (in), 19 4B (in), 20 VCC (power)

## DS96F175MJ-QMLV
designator U?
RS-485/RS-422 Quad Differential Receiver; PartNumber: DS96F175MJ/883; Manufacturer: National Semiconductor; CompType: Interface IC; PackageTopMarking: NSZSSXXYYA*DS96F175MJ/883 Q*5962-9076601MEA; Published: 4-Dec-2008; DatasheetVersion: Jul-2000; PackageVersion: revL, Sep-1993; PackageReference: J16A; Publisher: Altium Limited; PackageDescription: Cerdip (J), 16 Lead; RoHS: N; PinCount: 16; ComponentLink1Description: DS96F175M Datasheet; ComponentLink1URL: http://www.national.com/ds/DS/DS96F175M.pdf; ComponentLink2Description: DS96F175M Web Page; ComponentLink2URL: http://www.national.com/pf/DS/DS96F175M.html; ComponentLink3Description: J16A Package Page; ComponentLink3URL: http://www.national.com/packaging/folders/j16a.html
footprint J16A (DIP, 16-Leads, Row Spacing 7.62mm, Pitch 2.54mm, Body 19.56x6.73mm)
pins: 1 1B (in), 2 1A (in), 3 Y1 (hiz), 4 EN 1,2 (in), 5 Y2 (hiz), 6 2A (in), 7 2B (in), 8 GND (power), 9 3B (in), 10 3A (in), 11 Y3 (hiz), 12 ~{EN} 3,4 (in), 13 Y4 (hiz), 14 4A (in), 15 4B (in), 16 VCC (power)

## DS96F175MJ/883
designator U?
EIA-485/EIA-422 Quad Differential Receiver; PartNumber: DS96F175MJ-QMLV; Manufacturer: National Semiconductor; CompType: Interface IC; PackageTopMarking: NSZSSXXYYA*5962-9076601VEA*DS96F175MJ-QV Q; Published: 4-Dec-2008; DatasheetVersion: Jul-2000; PackageVersion: revL, Sep-1993; PackageReference: J16A; Publisher: Altium Limited; PackageDescription: Cerdip (J), 16 Lead; RoHS: N; PinCount: 16; ComponentLink1Description: DS96F175M Datasheet; ComponentLink1URL: http://www.national.com/ds/DS/DS96F175M.pdf; ComponentLink2Description: DS96F175M Web Page; ComponentLink2URL: http://www.national.com/pf/DS/DS96F175M.html; ComponentLink3Description: J16A Package Page; ComponentLink3URL: http://www.national.com/packaging/folders/j16a.html
footprint J16A (DIP, 16-Leads, Row Spacing 7.62mm, Pitch 2.54mm, Body 19.56x6.73mm)
pins: 1 1B (in), 2 1A (in), 3 Y1 (hiz), 4 EN 1/2 (in), 5 Y2 (hiz), 6 2A (in), 7 2B (in), 8 GND (power), 9 3B (in), 10 3A (in), 11 Y3 (hiz), 12 EN 3/4 (in), 13 Y4 (hiz), 14 4A (in), 15 4B (in), 16 VCC (power)

## DS99R101VS
designator U?
3-40MHz DC-Balanced 24-Bit LVDS Serializer; PartNumber: DS99R101VS; Manufacturer: National Semiconductor; CompType: Interface IC; PackageTopMarking: NSUZXYTT*DS99R101*VS; Published: 4-Dec-2008; DatasheetVersion: Oct-2007; PackageVersion: revA, Apr-2000; PackageReference: VBC48A; Publisher: Altium Limited; PackageDescription: TQFP, Jedec Metric, 7 x 7 x 1mm, 48 Lead, 0.5mm Pitch; RoHS: Y; PinCount: 48; DigiKeyPartNumber: DS99R101VS-ND; Code_JEDEC: MS-026-ABC; ComponentLink1Description: DS99R101 Datasheet; ComponentLink1URL: http://www.national.com/ds/DS/DS99R101.pdf; ComponentLink2Description: DS99R101 Web Page; ComponentLink2URL: http://www.national.com/pf/DS/DS99R101.html; ComponentLink3Description: VBC48A Package Page; ComponentLink3URL: http://www.national.com/packaging/folders/vbc48a.html
footprint VBC48A_N (Thin QFP, 48-Leads, Body 7x7mm, Pitch 0.5mm, IPC Medium Density)
footprint VBC48A_L (Thin QFP, 48-Leads, Body 7x7mm, Pitch 0.5mm, IPC High Density)
footprint VBC48A_M (Thin QFP, 48-Leads, Body 7x7mm, Pitch 0.5mm, IPC Low Density)
pins: 1 DIN[20] (in), 2 DIN[21] (in), 3 DIN[22] (in), 4 DIN[23] (in), 5 DCAOFF (in), 6 VSSL (power), 7 VDDL (power), 8 DCBOFF (in), 9 TPWDNB (in), 10 TCLK (in), 11 TRFB (in), 12 VODSEL (in), 13 RESRVD (in), 14 VDDPT1 (power), 15 VSSPT1 (power), 16 VDDPT0 (power), 17 VSSPT0 (power), 18 DEN (in), 19 DOUT- (out), 20 DOUT+ (out), 21 VSSDR (power), 22 VDDDR (power), 23 NC, 24 VSS (power), 25 DIN[0] (in), 26 DIN[1] (in), 27 DIN[2] (in), 28 DIN[3] (in), 29 DIN[4] (in), 30 VDDT (power), 31 VSST (power), 32 DIN[5] (in), 33 DIN[6] (in), 34 DIN[7] (in), 35 DIN[8] (in), 36 DIN[9] (in), 37 DIN[10] (in), 38 DIN[11] (in), 39 DIN[12] (in), 40 DIN[13] (in), 41 DIN[14] (in), 42 VDDIT (power), 43 VSSIT (power), 44 DIN[15] (in), 45 DIN[16] (in), 46 DIN[17] (in), 47 DIN[18] (in), 48 DIN[19] (in)

## DS99R102VS
designator U?
3-40MHz DC-Balanced 24-Bit LVDS Deserializer; PartNumber: DS99R102VS; Manufacturer: National Semiconductor; CompType: Interface IC; PackageTopMarking: NSUZXYTT*DS99R102*VS; Published: 4-Dec-2008; DatasheetVersion: Oct-2007; PackageVersion: revA, Apr-2000; PackageReference: VBC48A; Publisher: Altium Limited; PackageDescription: TQFP, Jedec Metric, 7 x 7 x 1mm, 48 Lead, 0.5mm Pitch; RoHS: Y; PinCount: 48; DigiKeyPartNumber: DS99R102VS-ND; Code_JEDEC: MS-026-ABC; ComponentLink1Description: DS99R102 Datasheet; ComponentLink1URL: http://www.national.com/ds/DS/DS99R102.pdf; ComponentLink2Description: DS99R102 Web Page; ComponentLink2URL: http://www.national.com/pf/DS/DS99R102.html; ComponentLink3Description: VBC48A Package Page; ComponentLink3URL: http://www.national.com/packaging/folders/vbc48a.html
footprint VBC48A_N (Thin QFP, 48-Leads, Body 7x7mm, Pitch 0.5mm, IPC Medium Density)
footprint VBC48A_L (Thin QFP, 48-Leads, Body 7x7mm, Pitch 0.5mm, IPC High Density)
footprint VBC48A_M (Thin QFP, 48-Leads, Body 7x7mm, Pitch 0.5mm, IPC Low Density)
pins: 1 RPWDNB (in), 2 RESRVD, 3 ROUT[23] (out), 4 ROUT[22] (out), 5 ROUT[21] (out), 6 ROUT[20] (out), 7 VDDOR3 (power), 8 VSSOR3 (power), 9 ROUT[19] (out), 10 ROUT[18] (out), 11 ROUT[17] (out), 12 ROUT[16] (out), 13 ROUT[15] (out), 14 ROUT[14] (out), 15 ROUT[13] (out), 16 ROUT[12] (out), 17 LOCK (out), 18 RCLK (out), 19 VSSOR2 (power), 20 VDDOR2 (power), 21 ROUT[11] (out), 22 ROUT[10] (out), 23 ROUT[9] (out), 24 ROUT[8] (out), 25 ROUT[7] (out), 26 ROUT[6] (out), 27 ROUT[5] (out), 28 ROUT[4] (out), 29 VSSOR1 (power), 30 VDDOR1 (power), 31 ROUT[3] (out), 32 ROUT[2] (out), 33 ROUT[1] (out), 34 ROUT[0] (out), 35 VSSR0 (power), 36 VDDR0 (power), 37 VDDR1 (power), 38 VSSR1 (power), 39 VDDIR (power), 40 VSSIR (power), 41 RIN+ (in), 42 RIN- (in), 43 RRFB (in), 44 VSSPR1 (power), 45 VDDPR1 (power), 46 VSSPR0 (power), 47 VDDPR0 (power), 48 REN (in)

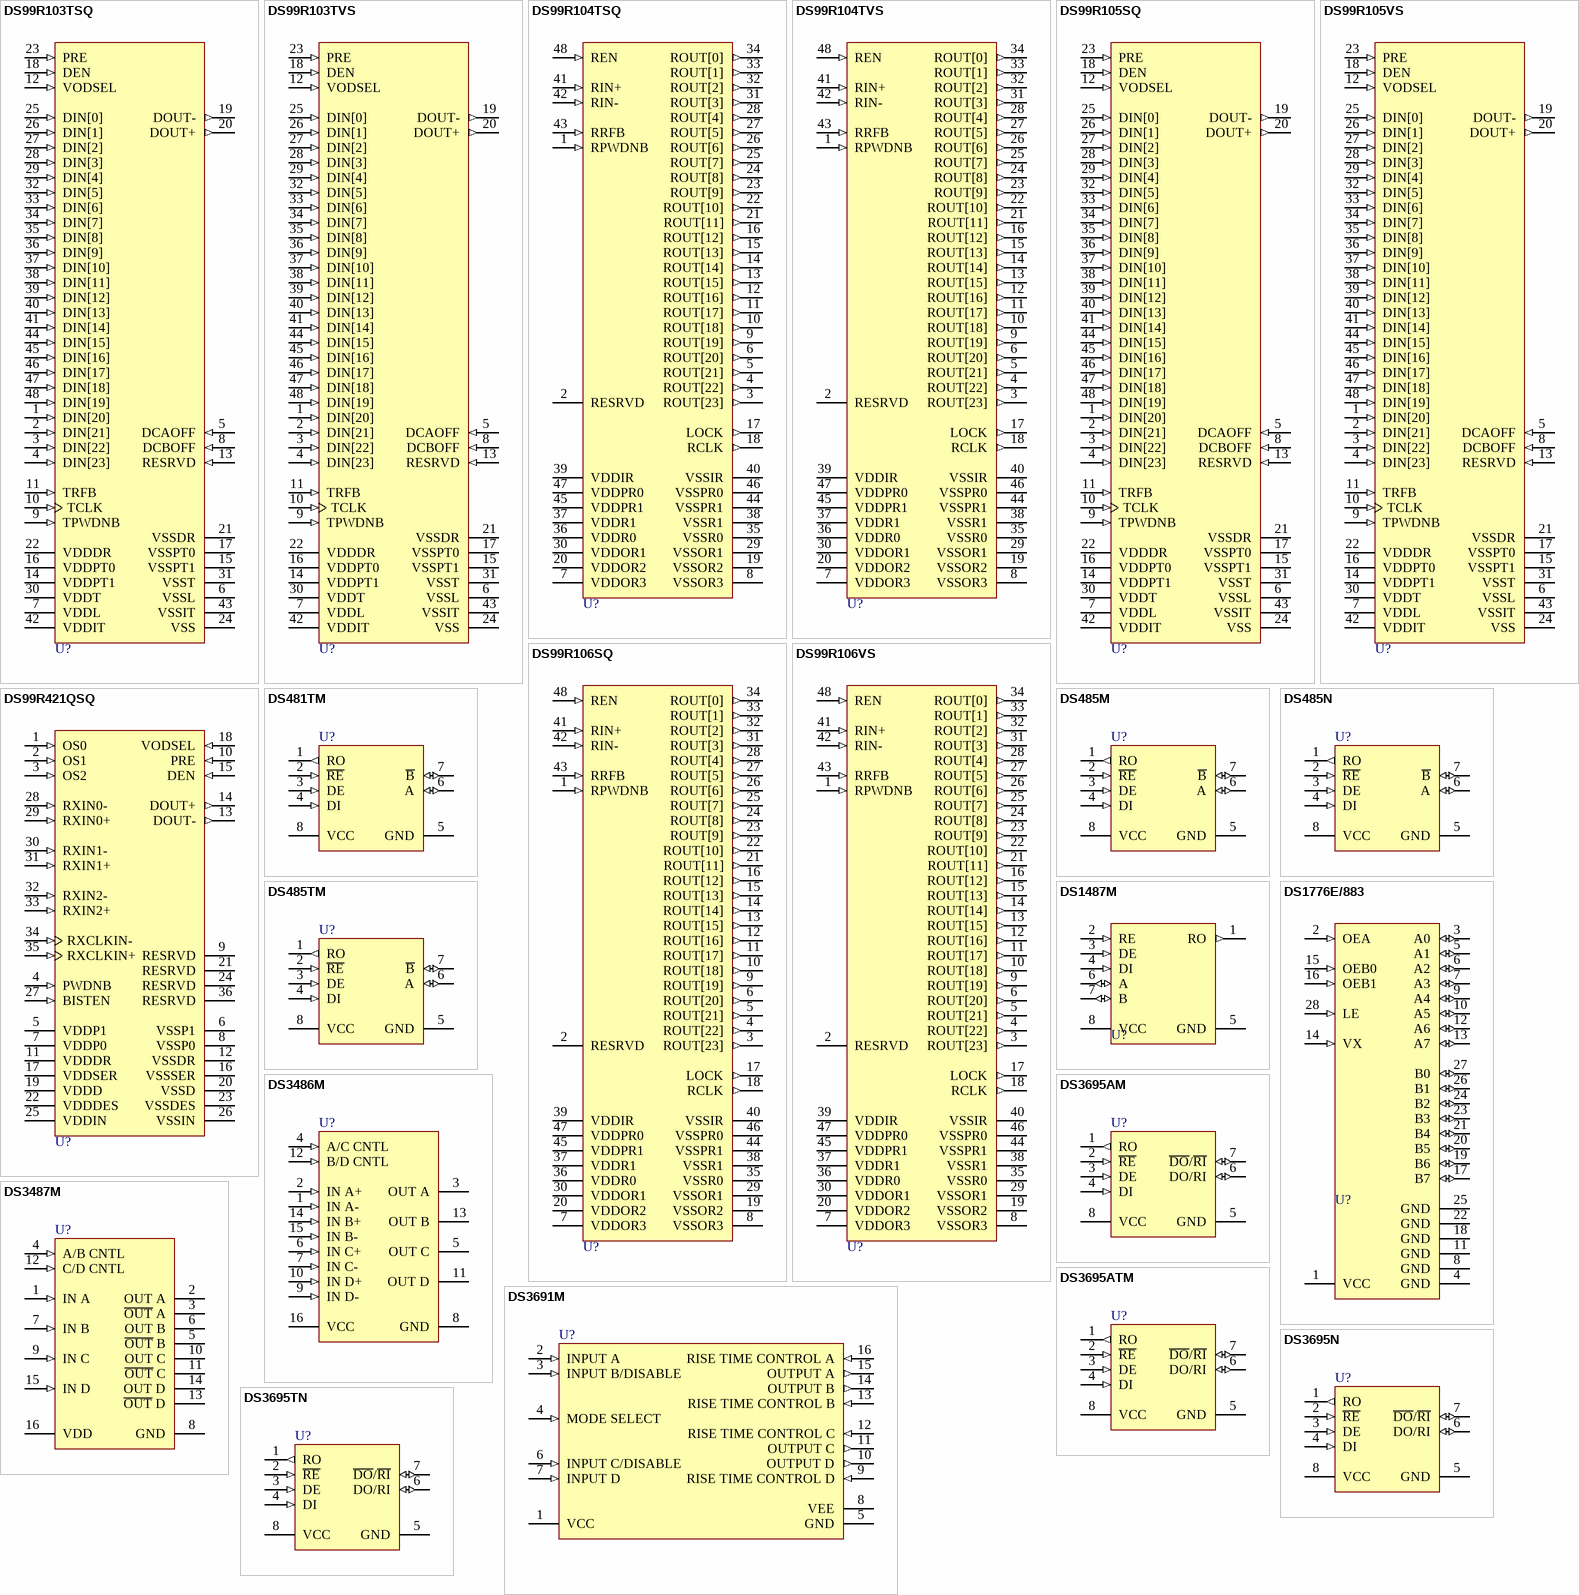
[diagram p26: symbols DS99R103TSQ to DS3695TN]

## DS99R103TSQ
designator U?
3-40MHz DC- Balanced 24-Bit LVDS Serializer; PartNumber: DS99R103TSQ; Manufacturer: National Semiconductor; CompType: Interface IC; PackageTopMarking: NS*UZXYTT*DS99R103T; Published: 4-Dec-2008; DatasheetVersion: Oct-2007; PackageVersion: revA, Jul-2004; PackageReference: SQA48D; Publisher: Altium Limited; PackageDescription: LLP, Quad, 7 x 7 x 0.8mm, 48 Lead, 0.5mm Pitch, 4.1 x 4.1mm Exposed Pad; RoHS: Y; PinCount: 48; DigiKeyPartNumber: DS99R103TSQTR-ND; ComponentLink1Description: DS99R103 Datasheet; ComponentLink1URL: http://www.national.com/ds/DS/DS99R103.pdf; ComponentLink2Description: DS99R103 Web Page; ComponentLink2URL: http://www.national.com/pf/DS/DS99R103.html; ComponentLink3Description: SQA48D Package Page; ComponentLink3URL: http://www.national.com/packaging/folders/sqa48d.html
footprint SQA48D (QFN, 48-Leads, Body 7x7mm, Pitch 0.5mm, NSC Recommended)
pins: 1 DIN[20] (in), 2 DIN[21] (in), 3 DIN[22] (in), 4 DIN[23] (in), 5 DCAOFF (in), 6 VSSL (power), 7 VDDL (power), 8 DCBOFF (in), 9 TPWDNB (in), 10 TCLK (in), 11 TRFB (in), 12 VODSEL (in), 13 RESRVD (in), 14 VDDPT1 (power), 15 VSSPT1 (power), 16 VDDPT0 (power), 17 VSSPT0 (power), 18 DEN (in), 19 DOUT- (out), 20 DOUT+ (out), 21 VSSDR (power), 22 VDDDR (power), 23 PRE (in), 24 VSS (power), 25 DIN[0] (in), 26 DIN[1] (in), 27 DIN[2] (in), 28 DIN[3] (in), 29 DIN[4] (in), 30 VDDT (power), 31 VSST (power), 32 DIN[5] (in), 33 DIN[6] (in), 34 DIN[7] (in), 35 DIN[8] (in), 36 DIN[9] (in), 37 DIN[10] (in), 38 DIN[11] (in), 39 DIN[12] (in), 40 DIN[13] (in), 41 DIN[14] (in), 42 VDDIT (power), 43 VSSIT (power), 44 DIN[15] (in), 45 DIN[16] (in), 46 DIN[17] (in), 47 DIN[18] (in), 48 DIN[19] (in)

## DS99R103TVS
designator U?
3-40MHz DC- Balanced 24-Bit LVDS Serializer; PartNumber: DS99R103TVS; Manufacturer: National Semiconductor; CompType: Interface IC; PackageTopMarking: NSUZXYTT*DS99R103*TVS; Published: 4-Dec-2008; DatasheetVersion: Oct-2007; PackageVersion: revA, Apr-2000; PackageReference: VBC48A; Publisher: Altium Limited; PackageDescription: TQFP, Jedec Metric, 7 x 7 x 1mm, 48 Lead, 0.5mm Pitch; RoHS: Y; PinCount: 48; DigiKeyPartNumber: DS99R103TVS-ND; Code_JEDEC: MS-026-ABC; ComponentLink1Description: DS99R103 Datasheet; ComponentLink1URL: http://www.national.com/ds/DS/DS99R103.pdf; ComponentLink2Description: DS99R103 Web Page; ComponentLink2URL: http://www.national.com/pf/DS/DS99R103.html; ComponentLink3Description: VBC48A Package Page; ComponentLink3URL: http://www.national.com/packaging/folders/vbc48a.html
footprint VBC48A_N (Thin QFP, 48-Leads, Body 7x7mm, Pitch 0.5mm, IPC Medium Density)
footprint VBC48A_L (Thin QFP, 48-Leads, Body 7x7mm, Pitch 0.5mm, IPC High Density)
footprint VBC48A_M (Thin QFP, 48-Leads, Body 7x7mm, Pitch 0.5mm, IPC Low Density)
pins: 1 DIN[20] (in), 2 DIN[21] (in), 3 DIN[22] (in), 4 DIN[23] (in), 5 DCAOFF (in), 6 VSSL (power), 7 VDDL (power), 8 DCBOFF (in), 9 TPWDNB (in), 10 TCLK (in), 11 TRFB (in), 12 VODSEL (in), 13 RESRVD (in), 14 VDDPT1 (power), 15 VSSPT1 (power), 16 VDDPT0 (power), 17 VSSPT0 (power), 18 DEN (in), 19 DOUT- (out), 20 DOUT+ (out), 21 VSSDR (power), 22 VDDDR (power), 23 PRE (in), 24 VSS (power), 25 DIN[0] (in), 26 DIN[1] (in), 27 DIN[2] (in), 28 DIN[3] (in), 29 DIN[4] (in), 30 VDDT (power), 31 VSST (power), 32 DIN[5] (in), 33 DIN[6] (in), 34 DIN[7] (in), 35 DIN[8] (in), 36 DIN[9] (in), 37 DIN[10] (in), 38 DIN[11] (in), 39 DIN[12] (in), 40 DIN[13] (in), 41 DIN[14] (in), 42 VDDIT (power), 43 VSSIT (power), 44 DIN[15] (in), 45 DIN[16] (in), 46 DIN[17] (in), 47 DIN[18] (in), 48 DIN[19] (in)

## DS99R104TSQ
designator U?
3-40MHz DC- Balanced 24-Bit LVDS Deserializer; PartNumber: DS99R104TSQ; Manufacturer: National Semiconductor; CompType: Interface IC; PackageTopMarking: NS*UZXYTT*DS99R104T; Published: 4-Dec-2008; DatasheetVersion: Oct-2007; PackageVersion: revA, Jul-2004; PackageReference: SQA48D; Publisher: Altium Limited; PackageDescription: LLP, Quad, 7 x 7 x 0.8mm, 48 Lead, 0.5mm Pitch, 4.1 x 4.1mm Exposed Pad; RoHS: Y; PinCount: 48; DigiKeyPartNumber: DS99R104TSQTR-ND; ComponentLink1Description: DS99R104 Datasheet; ComponentLink1URL: http://www.national.com/ds/DS/DS99R104.pdf; ComponentLink2Description: DS99R104 Web Page; ComponentLink2URL: http://www.national.com/pf/DS/DS99R104.html; ComponentLink3Description: SQA48D Package Page; ComponentLink3URL: http://www.national.com/packaging/folders/sqa48d.html
footprint SQA48D (QFN, 48-Leads, Body 7x7mm, Pitch 0.5mm, NSC Recommended)
pins: 1 RPWDNB (in), 2 RESRVD, 3 ROUT[23] (out), 4 ROUT[22] (out), 5 ROUT[21] (out), 6 ROUT[20] (out), 7 VDDOR3 (power), 8 VSSOR3 (power), 9 ROUT[19] (out), 10 ROUT[18] (out), 11 ROUT[17] (out), 12 ROUT[16] (out), 13 ROUT[15] (out), 14 ROUT[14] (out), 15 ROUT[13] (out), 16 ROUT[12] (out), 17 LOCK (out), 18 RCLK (out), 19 VSSOR2 (power), 20 VDDOR2 (power), 21 ROUT[11] (out), 22 ROUT[10] (out), 23 ROUT[9] (out), 24 ROUT[8] (out), 25 ROUT[7] (out), 26 ROUT[6] (out), 27 ROUT[5] (out), 28 ROUT[4] (out), 29 VSSOR1 (power), 30 VDDOR1 (power), 31 ROUT[3] (out), 32 ROUT[2] (out), 33 ROUT[1] (out), 34 ROUT[0] (out), 35 VSSR0 (power), 36 VDDR0 (power), 37 VDDR1 (power), 38 VSSR1 (power), 39 VDDIR (power), 40 VSSIR (power), 41 RIN+ (in), 42 RIN- (in), 43 RRFB (in), 44 VSSPR1 (power), 45 VDDPR1 (power), 46 VSSPR0 (power), 47 VDDPR0 (power), 48 REN (in)

## DS99R104TVS
designator U?
3-40MHz DC- Balanced 24-Bit LVDS Deserializer; PartNumber: DS99R104TVS; Manufacturer: National Semiconductor; CompType: Interface IC; PackageTopMarking: NSUZXYTT*DS99R104*TVS; Published: 4-Dec-2008; DatasheetVersion: Oct-2007; PackageVersion: revA, Apr-2000; PackageReference: VBC48A; Publisher: Altium Limited; PackageDescription: TQFP, Jedec Metric, 7 x 7 x 1mm, 48 Lead, 0.5mm Pitch; RoHS: Y; PinCount: 48; DigiKeyPartNumber: DS99R104TVS-ND; Code_JEDEC: MS-026-ABC; ComponentLink1Description: DS99R104 Datasheet; ComponentLink1URL: http://www.national.com/ds/DS/DS99R104.pdf; ComponentLink2Description: DS99R104 Web Page; ComponentLink2URL: http://www.national.com/pf/DS/DS99R104.html; ComponentLink3Description: VBC48A Package Page; ComponentLink3URL: http://www.national.com/packaging/folders/vbc48a.html
footprint VBC48A_N (Thin QFP, 48-Leads, Body 7x7mm, Pitch 0.5mm, IPC Medium Density)
footprint VBC48A_L (Thin QFP, 48-Leads, Body 7x7mm, Pitch 0.5mm, IPC High Density)
footprint VBC48A_M (Thin QFP, 48-Leads, Body 7x7mm, Pitch 0.5mm, IPC Low Density)
pins: 1 RPWDNB (in), 2 RESRVD, 3 ROUT[23] (out), 4 ROUT[22] (out), 5 ROUT[21] (out), 6 ROUT[20] (out), 7 VDDOR3 (power), 8 VSSOR3 (power), 9 ROUT[19] (out), 10 ROUT[18] (out), 11 ROUT[17] (out), 12 ROUT[16] (out), 13 ROUT[15] (out), 14 ROUT[14] (out), 15 ROUT[13] (out), 16 ROUT[12] (out), 17 LOCK (out), 18 RCLK (out), 19 VSSOR2 (power), 20 VDDOR2 (power), 21 ROUT[11] (out), 22 ROUT[10] (out), 23 ROUT[9] (out), 24 ROUT[8] (out), 25 ROUT[7] (out), 26 ROUT[6] (out), 27 ROUT[5] (out), 28 ROUT[4] (out), 29 VSSOR1 (power), 30 VDDOR1 (power), 31 ROUT[3] (out), 32 ROUT[2] (out), 33 ROUT[1] (out), 34 ROUT[0] (out), 35 VSSR0 (power), 36 VDDR0 (power), 37 VDDR1 (power), 38 VSSR1 (power), 39 VDDIR (power), 40 VSSIR (power), 41 RIN+ (in), 42 RIN- (in), 43 RRFB (in), 44 VSSPR1 (power), 45 VDDPR1 (power), 46 VSSPR0 (power), 47 VDDPR0 (power), 48 REN (in)

## DS99R105SQ
designator U?
3-40MHz DC- Balanced 24-Bit LVDS Serializer; PartNumber: DS99R105SQ; Manufacturer: National Semiconductor; CompType: Interface IC; PackageTopMarking: NS*UZXYTT*DS99R105; Published: 4-Dec-2008; DatasheetVersion: Oct-2007; PackageVersion: revA, Jul-2004; PackageReference: SQA48D; Publisher: Altium Limited; PackageDescription: LLP, Quad, 7 x 7 x 0.8mm, 48 Lead, 0.5mm Pitch, 4.1 x 4.1mm Exposed Pad; RoHS: Y; PinCount: 48; DigiKeyPartNumber: DS99R105SQTR-ND; ComponentLink1Description: DS99R105 Datasheet; ComponentLink1URL: http://www.national.com/ds/DS/DS99R105.pdf; ComponentLink2Description: DS99R105 Web Page; ComponentLink2URL: http://www.national.com/pf/DS/DS99R105.html; ComponentLink3Description: SQA48D Package Page; ComponentLink3URL: http://www.national.com/packaging/folders/sqa48d.html
footprint SQA48D (QFN, 48-Leads, Body 7x7mm, Pitch 0.5mm, NSC Recommended)
pins: 1 DIN[20] (in), 2 DIN[21] (in), 3 DIN[22] (in), 4 DIN[23] (in), 5 DCAOFF (in), 6 VSSL (power), 7 VDDL (power), 8 DCBOFF (in), 9 TPWDNB (in), 10 TCLK (in), 11 TRFB (in), 12 VODSEL (in), 13 RESRVD (in), 14 VDDPT1 (power), 15 VSSPT1 (power), 16 VDDPT0 (power), 17 VSSPT0 (power), 18 DEN (in), 19 DOUT- (out), 20 DOUT+ (out), 21 VSSDR (power), 22 VDDDR (power), 23 PRE (in), 24 VSS (power), 25 DIN[0] (in), 26 DIN[1] (in), 27 DIN[2] (in), 28 DIN[3] (in), 29 DIN[4] (in), 30 VDDT (power), 31 VSST (power), 32 DIN[5] (in), 33 DIN[6] (in), 34 DIN[7] (in), 35 DIN[8] (in), 36 DIN[9] (in), 37 DIN[10] (in), 38 DIN[11] (in), 39 DIN[12] (in), 40 DIN[13] (in), 41 DIN[14] (in), 42 VDDIT (power), 43 VSSIT (power), 44 DIN[15] (in), 45 DIN[16] (in), 46 DIN[17] (in), 47 DIN[18] (in), 48 DIN[19] (in)